# Altium schematic symbol library MCU_ST_STM32H5.SchLib: 73 symbols (part 2 of 3)
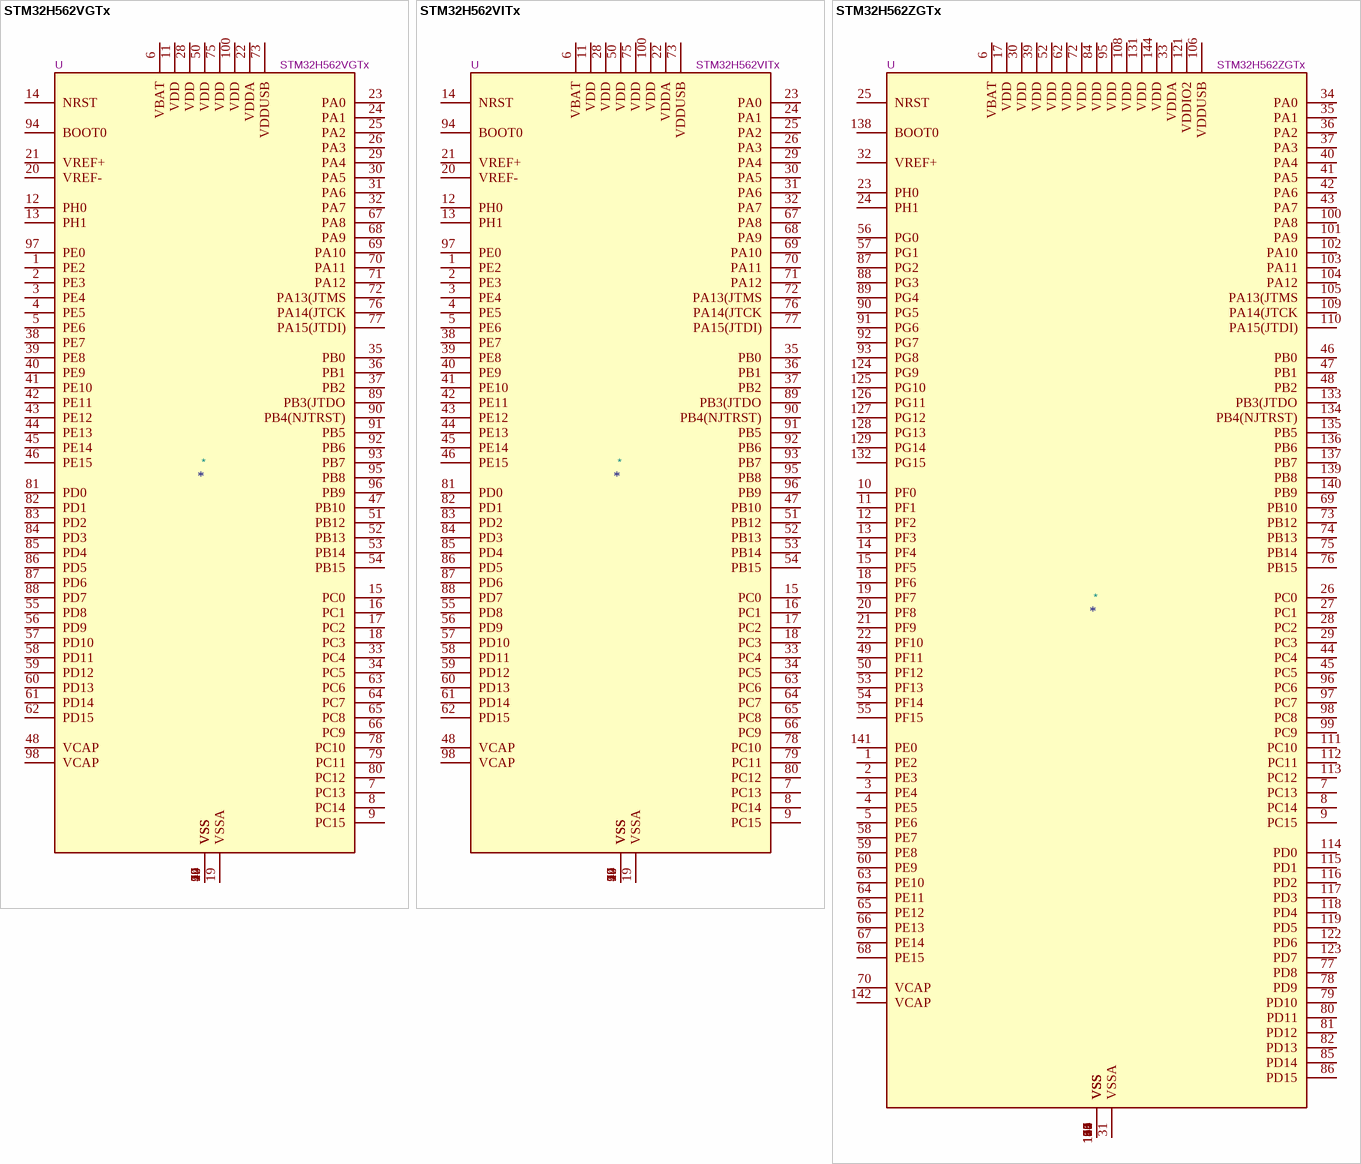
[diagram p22: symbols STM32H562VGTx to STM32H562ZGTx]

## STM32H562VGTx
designator *  value STM32H562VGTx  Reference: U
STMicroelectronics Arm Cortex-M33 MCU, 1024KB flash, 640KB RAM, 80 GPIO, LQFP100; ki_keywords: Arm Cortex-M33 STM32H5 STM32H5x2; ki_fp_filters: LQFP*14x14mm*P0.5mm*; Footprint: Package_QFP:LQFP-100_14x14mm_P0.5mm; Datasheet: https://www.st.com/resource/en/datasheet/stm32h562vg.pdf; Description_: STMicroelectronics Arm Cortex-M33 MCU, 1024KB flash, 640KB RAM, 80 GPIO, LQFP100
pins: 1 PE2, 2 PE3, 3 PE4, 4 PE5, 5 PE6, 6 VBAT, 7 PC13, 8 PC14, 9 PC15, 10 VSS, 11 VDD, 12 PH0, 13 PH1, 14 NRST, 15 PC0, 16 PC1, 17 PC2, 18 PC3, 19 VSSA, 20 VREF-, 21 VREF+, 22 VDDA, 23 PA0, 24 PA1, 25 PA2, 26 PA3, 27 VSS, 28 VDD, 29 PA4, 30 PA5, 31 PA6, 32 PA7, 33 PC4, 34 PC5, 35 PB0, 36 PB1, 37 PB2, 38 PE7, 39 PE8, 40 PE9, 41 PE10, 42 PE11, 43 PE12, 44 PE13, 45 PE14, 46 PE15, 47 PB10, 48 VCAP, 49 VSS, 50 VDD, 51 PB12, 52 PB13, 53 PB14, 54 PB15, 55 PD8, 56 PD9, 57 PD10, 58 PD11, 59 PD12, 60 PD13, 61 PD14, 62 PD15, 63 PC6, 64 PC7, 65 PC8, 66 PC9, 67 PA8, 68 PA9, 69 PA10, 70 PA11, 71 PA12, 72 PA13(JTMS, 73 VDDUSB, 74 VSS, 75 VDD, 76 PA14(JTCK, 77 PA15(JTDI), 78 PC10, 79 PC11, 80 PC12, 81 PD0, 82 PD1, 83 PD2, 84 PD3, 85 PD4, 86 PD5, 87 PD6, 88 PD7, 89 PB3(JTDO, 90 PB4(NJTRST), 91 PB5, 92 PB6, 93 PB7, 94 BOOT0, 95 PB8, 96 PB9, 97 PE0, 98 VCAP, 99 VSS, 100 VDD

## STM32H562VITx
designator *  value STM32H562VITx  Reference: U
STMicroelectronics Arm Cortex-M33 MCU, 2048KB flash, 640KB RAM, 250 MHz, 1.62-3.6V, 80 GPIO, LQFP100; ki_keywords: Arm Cortex-M33 STM32H5 STM32H562; ki_fp_filters: LQFP*14x14mm*P0.5mm*; Footprint: Package_QFP:LQFP-100_14x14mm_P0.5mm; Datasheet: https://www.st.com/resource/en/datasheet/stm32h562vi.pdf; Description_: STMicroelectronics Arm Cortex-M33 MCU, 2048KB flash, 640KB RAM, 250 MHz, 1.62-3.6V, 80 GPIO, LQFP100
pins: 1 PE2, 2 PE3, 3 PE4, 4 PE5, 5 PE6, 6 VBAT, 7 PC13, 8 PC14, 9 PC15, 10 VSS, 11 VDD, 12 PH0, 13 PH1, 14 NRST, 15 PC0, 16 PC1, 17 PC2, 18 PC3, 19 VSSA, 20 VREF-, 21 VREF+, 22 VDDA, 23 PA0, 24 PA1, 25 PA2, 26 PA3, 27 VSS, 28 VDD, 29 PA4, 30 PA5, 31 PA6, 32 PA7, 33 PC4, 34 PC5, 35 PB0, 36 PB1, 37 PB2, 38 PE7, 39 PE8, 40 PE9, 41 PE10, 42 PE11, 43 PE12, 44 PE13, 45 PE14, 46 PE15, 47 PB10, 48 VCAP, 49 VSS, 50 VDD, 51 PB12, 52 PB13, 53 PB14, 54 PB15, 55 PD8, 56 PD9, 57 PD10, 58 PD11, 59 PD12, 60 PD13, 61 PD14, 62 PD15, 63 PC6, 64 PC7, 65 PC8, 66 PC9, 67 PA8, 68 PA9, 69 PA10, 70 PA11, 71 PA12, 72 PA13(JTMS, 73 VDDUSB, 74 VSS, 75 VDD, 76 PA14(JTCK, 77 PA15(JTDI), 78 PC10, 79 PC11, 80 PC12, 81 PD0, 82 PD1, 83 PD2, 84 PD3, 85 PD4, 86 PD5, 87 PD6, 88 PD7, 89 PB3(JTDO, 90 PB4(NJTRST), 91 PB5, 92 PB6, 93 PB7, 94 BOOT0, 95 PB8, 96 PB9, 97 PE0, 98 VCAP, 99 VSS, 100 VDD

## STM32H562ZGTx
designator *  value STM32H562ZGTx  Reference: U
STMicroelectronics Arm Cortex-M33 MCU, 1024KB flash, 640KB RAM, 112 GPIO, LQFP144; ki_keywords: Arm Cortex-M33 STM32H5 STM32H5x2; ki_fp_filters: LQFP*20x20mm*P0.5mm*; Footprint: Package_QFP:LQFP-144_20x20mm_P0.5mm; Datasheet: https://www.st.com/resource/en/datasheet/stm32h562zg.pdf; Description_: STMicroelectronics Arm Cortex-M33 MCU, 1024KB flash, 640KB RAM, 112 GPIO, LQFP144
pins: 1 PE2, 2 PE3, 3 PE4, 4 PE5, 5 PE6, 6 VBAT, 7 PC13, 8 PC14, 9 PC15, 10 PF0, 11 PF1, 12 PF2, 13 PF3, 14 PF4, 15 PF5, 16 VSS, 17 VDD, 18 PF6, 19 PF7, 20 PF8, 21 PF9, 22 PF10, 23 PH0, 24 PH1, 25 NRST, 26 PC0, 27 PC1, 28 PC2, 29 PC3, 30 VDD, 31 VSSA, 32 VREF+, 33 VDDA, 34 PA0, 35 PA1, 36 PA2, 37 PA3, 38 VSS, 39 VDD, 40 PA4, 41 PA5, 42 PA6, 43 PA7, 44 PC4, 45 PC5, 46 PB0, 47 PB1, 48 PB2, 49 PF11, 50 PF12, 51 VSS, 52 VDD, 53 PF13, 54 PF14, 55 PF15, 56 PG0, 57 PG1, 58 PE7, 59 PE8, 60 PE9, 61 VSS, 62 VDD, 63 PE10, 64 PE11, 65 PE12, 66 PE13, 67 PE14, 68 PE15, 69 PB10, 70 VCAP, 71 VSS, 72 VDD, 73 PB12, 74 PB13, 75 PB14, 76 PB15, 77 PD8, 78 PD9, 79 PD10, 80 PD11, 81 PD12, 82 PD13, 83 VSS, 84 VDD, 85 PD14, 86 PD15, 87 PG2, 88 PG3, 89 PG4, 90 PG5, 91 PG6, 92 PG7, 93 PG8, 94 VSS, 95 VDD, 96 PC6, 97 PC7, 98 PC8, 99 PC9, 100 PA8, 101 PA9, 102 PA10, 103 PA11, 104 PA12, 105 PA13(JTMS, 106 VDDUSB, 107 VSS, 108 VDD, 109 PA14(JTCK, 110 PA15(JTDI), 111 PC10, 112 PC11, 113 PC12, 114 PD0, 115 PD1, 116 PD2, 117 PD3, 118 PD4, 119 PD5, 120 VSS, 121 VDDIO2, 122 PD6, 123 PD7, 124 PG9, 125 PG10, 126 PG11, 127 PG12, 128 PG13, 129 PG14, 130 VSS, 131 VDD, 132 PG15, 133 PB3(JTDO, 134 PB4(NJTRST), 135 PB5, 136 PB6, 137 PB7, 138 BOOT0, 139 PB8, 140 PB9, 141 PE0, 142 VCAP, 143 VSS, 144 VDD

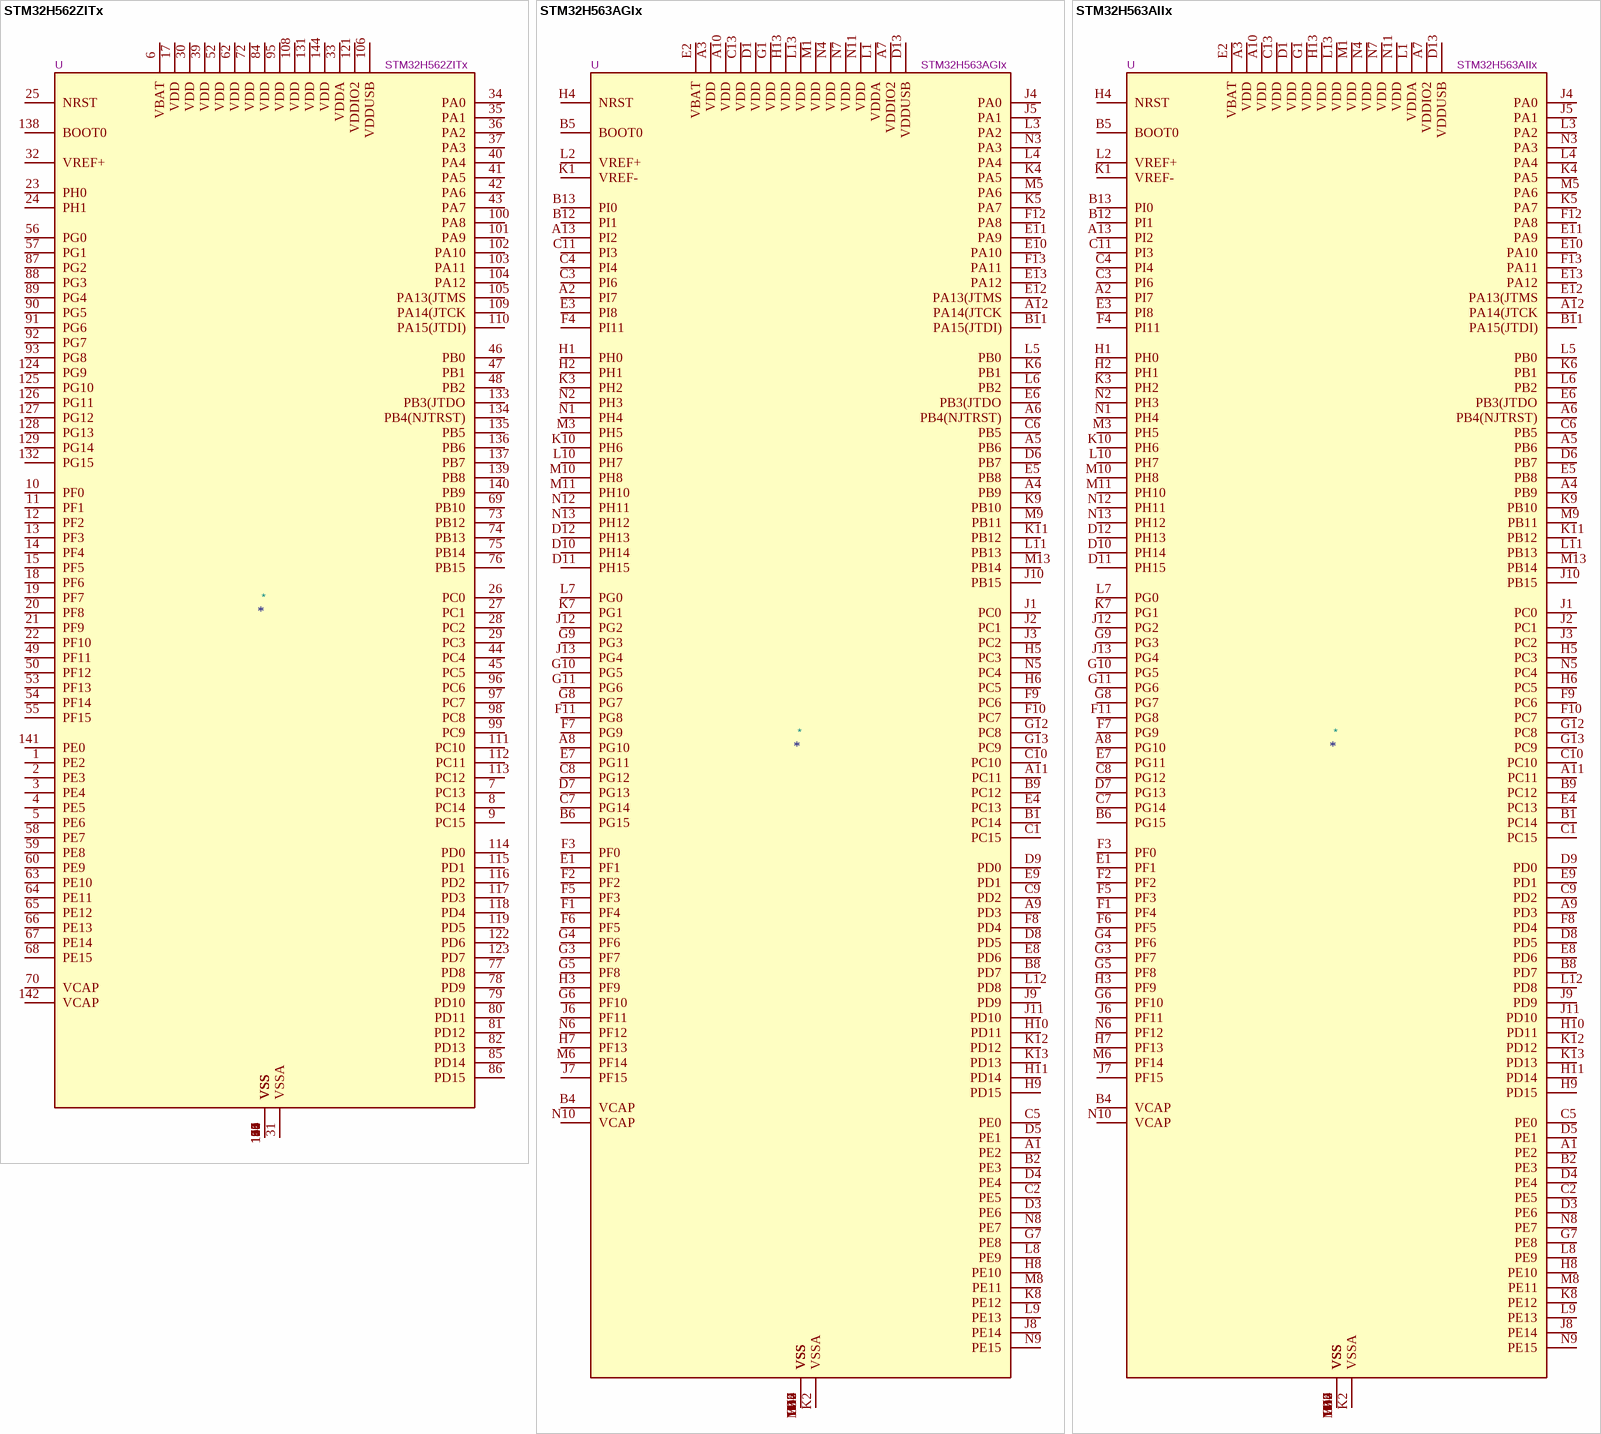
[diagram p10: symbols STM32H562ZITx to STM32H563AIIx]

## STM32H562ZITx
designator *  value STM32H562ZITx  Reference: U
STMicroelectronics Arm Cortex-M33 MCU, 2048KB flash, 640KB RAM, 250 MHz, 1.62-3.6V, 112 GPIO, LQFP144; ki_keywords: Arm Cortex-M33 STM32H5 STM32H562; ki_fp_filters: LQFP*20x20mm*P0.5mm*; Footprint: Package_QFP:LQFP-144_20x20mm_P0.5mm; Datasheet: https://www.st.com/resource/en/datasheet/stm32h562zi.pdf; Description_: STMicroelectronics Arm Cortex-M33 MCU, 2048KB flash, 640KB RAM, 250 MHz, 1.62-3.6V, 112 GPIO, LQFP144
pins: 1 PE2, 2 PE3, 3 PE4, 4 PE5, 5 PE6, 6 VBAT, 7 PC13, 8 PC14, 9 PC15, 10 PF0, 11 PF1, 12 PF2, 13 PF3, 14 PF4, 15 PF5, 16 VSS, 17 VDD, 18 PF6, 19 PF7, 20 PF8, 21 PF9, 22 PF10, 23 PH0, 24 PH1, 25 NRST, 26 PC0, 27 PC1, 28 PC2, 29 PC3, 30 VDD, 31 VSSA, 32 VREF+, 33 VDDA, 34 PA0, 35 PA1, 36 PA2, 37 PA3, 38 VSS, 39 VDD, 40 PA4, 41 PA5, 42 PA6, 43 PA7, 44 PC4, 45 PC5, 46 PB0, 47 PB1, 48 PB2, 49 PF11, 50 PF12, 51 VSS, 52 VDD, 53 PF13, 54 PF14, 55 PF15, 56 PG0, 57 PG1, 58 PE7, 59 PE8, 60 PE9, 61 VSS, 62 VDD, 63 PE10, 64 PE11, 65 PE12, 66 PE13, 67 PE14, 68 PE15, 69 PB10, 70 VCAP, 71 VSS, 72 VDD, 73 PB12, 74 PB13, 75 PB14, 76 PB15, 77 PD8, 78 PD9, 79 PD10, 80 PD11, 81 PD12, 82 PD13, 83 VSS, 84 VDD, 85 PD14, 86 PD15, 87 PG2, 88 PG3, 89 PG4, 90 PG5, 91 PG6, 92 PG7, 93 PG8, 94 VSS, 95 VDD, 96 PC6, 97 PC7, 98 PC8, 99 PC9, 100 PA8, 101 PA9, 102 PA10, 103 PA11, 104 PA12, 105 PA13(JTMS, 106 VDDUSB, 107 VSS, 108 VDD, 109 PA14(JTCK, 110 PA15(JTDI), 111 PC10, 112 PC11, 113 PC12, 114 PD0, 115 PD1, 116 PD2, 117 PD3, 118 PD4, 119 PD5, 120 VSS, 121 VDDIO2, 122 PD6, 123 PD7, 124 PG9, 125 PG10, 126 PG11, 127 PG12, 128 PG13, 129 PG14, 130 VSS, 131 VDD, 132 PG15, 133 PB3(JTDO, 134 PB4(NJTRST), 135 PB5, 136 PB6, 137 PB7, 138 BOOT0, 139 PB8, 140 PB9, 141 PE0, 142 VCAP, 143 VSS, 144 VDD

## STM32H563AGIx
designator *  value STM32H563AGIx  Reference: U
STMicroelectronics Arm Cortex-M33 MCU, 1024KB flash, 640KB RAM, 136 GPIO, UFBGA169; ki_keywords: Arm Cortex-M33 STM32H5 STM32H5x3; ki_fp_filters: UFBGA*7x7mm*Layout13x13*P0.5mm*; Footprint: Package_BGA:UFBGA-169_7x7mm_Layout13x13_P0.5mm; Datasheet: https://www.st.com/resource/en/datasheet/stm32h563ag.pdf; Description_: STMicroelectronics Arm Cortex-M33 MCU, 1024KB flash, 640KB RAM, 136 GPIO, UFBGA169
pins: A1 PE2, A2 PI7, A3 VDD, A4 PB9, A5 PB6, A6 PB4(NJTRST), A7 VDDIO2, A8 PG10, A9 PD3, A10 VDD, A11 PC11, A12 PA14(JTCK, A13 PI2, B1 PC14, B2 PE3, B3 VSS, B4 VCAP, B5 BOOT0, B6 PG15, B7 VSS, B8 PD7, B9 PC12, B10 VSS, B11 PA15(JTDI), B12 PI1, B13 PI0, C1 PC15, C2 PE5, C3 PI6, C4 PI4, C5 PE0, C6 PB5, C7 PG14, C8 PG12, C9 PD2, C10 PC10, C11 PI3, C12 VSS, C13 VDD, D1 VDD, D2 VSS, D3 PE6, D4 PE4, D5 PE1, D6 PB7, D7 PG13, D8 PD5, D9 PD0, D10 PH14, D11 PH15, D12 PH13, D13 VDDUSB, E1 PF1, E2 VBAT, E3 PI8, E4 PC13, E5 PB8, E6 PB3(JTDO, E7 PG11, E8 PD6, E9 PD1, E10 PA10, E11 PA9, E12 PA13(JTMS, E13 PA12, F1 PF4, F2 PF2, F3 PF0, F4 PI11, F5 PF3, F6 PF5, F7 PG9, F8 PD4, F9 PC6, F10 PC7, F11 PG8, F12 PA8, F13 PA11, G1 VDD, G2 VSS, G3 PF7, G4 PF6, G5 PF8, G6 PF10, G7 PE8, G8 PG7, G9 PG3, G10 PG5, G11 PG6, G12 PC8, G13 PC9, H1 PH0, H2 PH1, H3 PF9, H4 NRST, H5 PC3, H6 PC5, H7 PF13, H8 PE10, H9 PD15, H10 PD11, H11 PD14, H12 VSS, H13 VDD, J1 PC0, J2 PC1, J3 PC2, J4 PA0, J5 PA1, J6 PF11, J7 PF15, J8 PE14, J9 PD9, J10 PB15, J11 PD10, J12 PG2, J13 PG4, K1 VREF-, K2 VSSA, K3 PH2, K4 PA5, K5 PA7, K6 PB1, K7 PG1, K8 PE12, K9 PB10, K10 PH6, K11 PB12, K12 PD12, K13 PD13, L1 VDDA, L2 VREF+, L3 PA2, L4 PA4, L5 PB0, L6 PB2, L7 PG0, L8 PE9, L9 PE13, L10 PH7, L11 PB13, L12 PD8, L13 VDD, M1 VDD, M2 VSS, M3 PH5, M4 VSS, M5 PA6, M6 PF14, M7 VSS, M8 PE11, M9 PB11, M10 PH8, M11 PH10, M12 VSS, M13 PB14, N1 PH4, N2 PH3, N3 PA3, N4 VDD, N5 PC4, N6 PF12, N7 VDD, N8 PE7, N9 PE15, N10 VCAP, N11 VDD, N12 PH11, N13 PH12

## STM32H563AIIx
designator *  value STM32H563AIIx  Reference: U
STMicroelectronics Arm Cortex-M33 MCU, 2048KB flash, 640KB RAM, 250 MHz, 1.62-3.6V, 136 GPIO, UFBGA169; ki_keywords: Arm Cortex-M33 STM32H5 STM32H563/H573; ki_fp_filters: UFBGA*7x7mm*Layout13x13*P0.5mm*; Footprint: Package_BGA:UFBGA-169_7x7mm_Layout13x13_P0.5mm; Datasheet: https://www.st.com/resource/en/datasheet/stm32h563ai.pdf; Description_: STMicroelectronics Arm Cortex-M33 MCU, 2048KB flash, 640KB RAM, 250 MHz, 1.62-3.6V, 136 GPIO, UFBGA169
pins: A1 PE2, A2 PI7, A3 VDD, A4 PB9, A5 PB6, A6 PB4(NJTRST), A7 VDDIO2, A8 PG10, A9 PD3, A10 VDD, A11 PC11, A12 PA14(JTCK, A13 PI2, B1 PC14, B2 PE3, B3 VSS, B4 VCAP, B5 BOOT0, B6 PG15, B7 VSS, B8 PD7, B9 PC12, B10 VSS, B11 PA15(JTDI), B12 PI1, B13 PI0, C1 PC15, C2 PE5, C3 PI6, C4 PI4, C5 PE0, C6 PB5, C7 PG14, C8 PG12, C9 PD2, C10 PC10, C11 PI3, C12 VSS, C13 VDD, D1 VDD, D2 VSS, D3 PE6, D4 PE4, D5 PE1, D6 PB7, D7 PG13, D8 PD5, D9 PD0, D10 PH14, D11 PH15, D12 PH13, D13 VDDUSB, E1 PF1, E2 VBAT, E3 PI8, E4 PC13, E5 PB8, E6 PB3(JTDO, E7 PG11, E8 PD6, E9 PD1, E10 PA10, E11 PA9, E12 PA13(JTMS, E13 PA12, F1 PF4, F2 PF2, F3 PF0, F4 PI11, F5 PF3, F6 PF5, F7 PG9, F8 PD4, F9 PC6, F10 PC7, F11 PG8, F12 PA8, F13 PA11, G1 VDD, G2 VSS, G3 PF7, G4 PF6, G5 PF8, G6 PF10, G7 PE8, G8 PG7, G9 PG3, G10 PG5, G11 PG6, G12 PC8, G13 PC9, H1 PH0, H2 PH1, H3 PF9, H4 NRST, H5 PC3, H6 PC5, H7 PF13, H8 PE10, H9 PD15, H10 PD11, H11 PD14, H12 VSS, H13 VDD, J1 PC0, J2 PC1, J3 PC2, J4 PA0, J5 PA1, J6 PF11, J7 PF15, J8 PE14, J9 PD9, J10 PB15, J11 PD10, J12 PG2, J13 PG4, K1 VREF-, K2 VSSA, K3 PH2, K4 PA5, K5 PA7, K6 PB1, K7 PG1, K8 PE12, K9 PB10, K10 PH6, K11 PB12, K12 PD12, K13 PD13, L1 VDDA, L2 VREF+, L3 PA2, L4 PA4, L5 PB0, L6 PB2, L7 PG0, L8 PE9, L9 PE13, L10 PH7, L11 PB13, L12 PD8, L13 VDD, M1 VDD, M2 VSS, M3 PH5, M4 VSS, M5 PA6, M6 PF14, M7 VSS, M8 PE11, M9 PB11, M10 PH8, M11 PH10, M12 VSS, M13 PB14, N1 PH4, N2 PH3, N3 PA3, N4 VDD, N5 PC4, N6 PF12, N7 VDD, N8 PE7, N9 PE15, N10 VCAP, N11 VDD, N12 PH11, N13 PH12

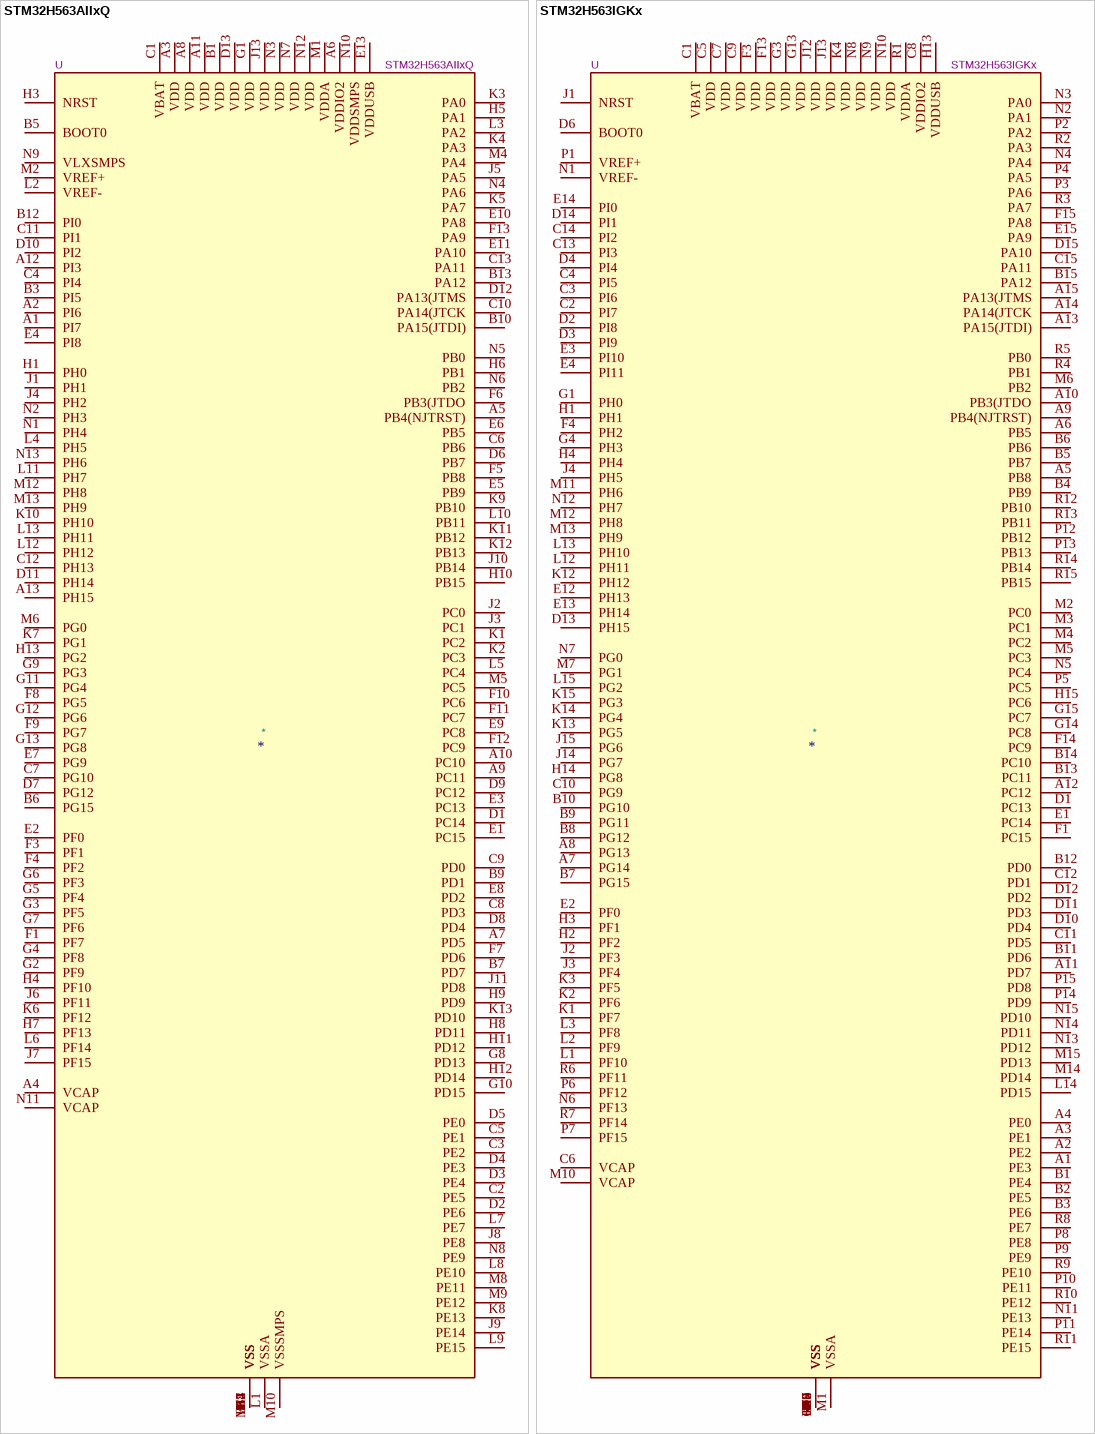
[diagram p11: symbols STM32H563AIIxQ to STM32H563IGKx]

## STM32H563AIIxQ
designator *  value STM32H563AIIxQ  Reference: U
STMicroelectronics Arm Cortex-M33 MCU, 2048KB flash, 640KB RAM, 250 MHz, 1.62-3.6V, 134 GPIO, UFBGA169; ki_keywords: Arm Cortex-M33 STM32H5 STM32H563/H573; ki_fp_filters: UFBGA*7x7mm*Layout13x13*P0.5mm*; Footprint: Package_BGA:UFBGA-169_7x7mm_Layout13x13_P0.5mm; Datasheet: https://www.st.com/resource/en/datasheet/stm32h563ai.pdf; Description_: STMicroelectronics Arm Cortex-M33 MCU, 2048KB flash, 640KB RAM, 250 MHz, 1.62-3.6V, 134 GPIO, UFBGA169
pins: A1 PI7, A2 PI6, A3 VDD, A4 VCAP, A5 PB4(NJTRST), A6 VDDIO2, A7 PD5, A8 VDD, A9 PC11, A10 PC10, A11 VDD, A12 PI3, A13 PH15, B1 VDD, B2 VSS, B3 PI5, B4 VSS, B5 BOOT0, B6 PG15, B7 PD7, B8 VSS, B9 PD1, B10 PA15(JTDI), B11 VSS, B12 PI0, B13 PA12, C1 VBAT, C2 PE5, C3 PE2, C4 PI4, C5 PE1, C6 PB6, C7 PG10, C8 PD3, C9 PD0, C10 PA14(JTCK, C11 PI1, C12 PH13, C13 PA11, D1 PC14, D2 PE6, D3 PE4, D4 PE3, D5 PE0, D6 PB7, D7 PG12, D8 PD4, D9 PC12, D10 PI2, D11 PH14, D12 PA13(JTMS, D13 VDD, E1 PC15, E2 PF0, E3 PC13, E4 PI8, E5 PB9, E6 PB5, E7 PG9, E8 PD2, E9 PC8, E10 PA8, E11 PA10, E12 VSS, E13 VDDUSB, F1 PF7, F2 VSS, F3 PF1, F4 PF2, F5 PB8, F6 PB3(JTDO, F7 PD6, F8 PG5, F9 PG7, F10 PC6, F11 PC7, F12 PC9, F13 PA9, G1 VDD, G2 PF9, G3 PF5, G4 PF8, G5 PF4, G6 PF3, G7 PF6, G8 PD13, G9 PG3, G10 PD15, G11 PG4, G12 PG6, G13 PG8, H1 PH0, H2 VSS, H3 NRST, H4 PF10, H5 PA1, H6 PB1, H7 PF13, H8 PD11, H9 PD9, H10 PB15, H11 PD12, H12 PD14, H13 PG2, J1 PH1, J2 PC0, J3 PC1, J4 PH2, J5 PA5, J6 PF11, J7 PF15, J8 PE8, J9 PE14, J10 PB14, J11 PD8, J12 VSS, J13 VDD, K1 PC2, K2 PC3, K3 PA0, K4 PA3, K5 PA7, K6 PF12, K7 PG1, K8 PE13, K9 PB10, K10 PH10, K11 PB12, K12 PB13, K13 PD10, L1 VSSA, L2 VREF-, L3 PA2, L4 PH5, L5 PC4, L6 PF14, L7 PE7, L8 PE10, L9 PE15, L10 PB11, L11 PH7, L12 PH12, L13 PH11, M1 VDDA, M2 VREF+, M3 VSS, M4 PA4, M5 PC5, M6 PG0, M7 VSS, M8 PE11, M9 PE12, M10 VSSSMPS, M11 VSS, M12 PH8, M13 PH9, N1 PH4, N2 PH3, N3 VDD, N4 PA6, N5 PB0, N6 PB2, N7 VDD, N8 PE9, N9 VLXSMPS, N10 VDDSMPS, N11 VCAP, N12 VDD, N13 PH6

## STM32H563IGKx
designator *  value STM32H563IGKx  Reference: U
STMicroelectronics Arm Cortex-M33 MCU, 1024KB flash, 640KB RAM, 250 MHz, 1.62-3.6V, 140 GPIO, UFBGA176; ki_keywords: Arm Cortex-M33 STM32H5 STM32H563/H573; ki_fp_filters: UFBGA*10x10mm*Layout15x15*P0.65mm*; Footprint: Package_BGA:UFBGA-201_10x10mm_Layout15x15_P0.65mm; Datasheet: https://www.st.com/resource/en/datasheet/stm32h563ig.pdf; Description_: STMicroelectronics Arm Cortex-M33 MCU, 1024KB flash, 640KB RAM, 250 MHz, 1.62-3.6V, 140 GPIO, UFBGA176
pins: A1 PE3, A2 PE2, A3 PE1, A4 PE0, A5 PB8, A6 PB5, A7 PG14, A8 PG13, A9 PB4(NJTRST), A10 PB3(JTDO, A11 PD7, A12 PC12, A13 PA15(JTDI), A14 PA14(JTCK, A15 PA13(JTMS, B1 PE4, B2 PE5, B3 PE6, B4 PB9, B5 PB7, B6 PB6, B7 PG15, B8 PG12, B9 PG11, B10 PG10, B11 PD6, B12 PD0, B13 PC11, B14 PC10, B15 PA12, C1 VBAT, C2 PI7, C3 PI6, C4 PI5, C5 VDD, C6 VCAP, C7 VDD, C8 VDDIO2, C9 VDD, C10 PG9, C11 PD5, C12 PD1, C13 PI3, C14 PI2, C15 PA11, D1 PC13, D2 PI8, D3 PI9, D4 PI4, D5 VSS, D6 BOOT0, D7 VSS, D8 VSS, D9 VSS, D10 PD4, D11 PD3, D12 PD2, D13 PH15, D14 PI1, D15 PA10, E1 PC14, E2 PF0, E3 PI10, E4 PI11, E12 PH13, E13 PH14, E14 PI0, E15 PA9, F1 PC15, F2 VSS, F3 VDD, F4 PH2, F6 VSS, F7 VSS, F8 VSS, F9 VSS, F10 VSS, F12 VSS, F13 VDD, F14 PC9, F15 PA8, G1 PH0, G2 VSS, G3 VDD, G4 PH3, G6 VSS, G7 VSS, G8 VSS, G9 VSS, G10 VSS, G12 VSS, G13 VDD, G14 PC8, G15 PC7, H1 PH1, H2 PF2, H3 PF1, H4 PH4, H6 VSS, H7 VSS, H8 VSS, H9 VSS, H10 VSS, H12 VSS, H13 VDDUSB, H14 PG8, H15 PC6, J1 NRST, J2 PF3, J3 PF4, J4 PH5, J6 VSS, J7 VSS, J8 VSS, J9 VSS, J10 VSS, J12 VDD, J13 VDD, J14 PG7, J15 PG6, K1 PF7, K2 PF6, K3 PF5, K4 VDD, K6 VSS, K7 VSS, K8 VSS, K9 VSS, K10 VSS, K12 PH12, K13 PG5, K14 PG4, K15 PG3, L1 PF10, L2 PF9, L3 PF8, L4 VSS, L12 PH11, L13 PH10, L14 PD15, L15 PG2, M1 VSSA, M2 PC0, M3 PC1, M4 PC2, M5 PC3, M6 PB2, M7 PG1, M8 VSS, M9 VSS, M10 VCAP, M11 PH6, M12 PH8, M13 PH9, M14 PD14, M15 PD13, N1 VREF-, N2 PA1, N3 PA0, N4 PA4, N5 PC4, N6 PF13, N7 PG0, N8 VDD, N9 VDD, N10 VDD, N11 PE13, N12 PH7, N13 PD12, N14 PD11, N15 PD10, P1 VREF+, P2 PA2, P3 PA6, P4 PA5, P5 PC5, P6 PF12, P7 PF15, P8 PE8, P9 PE9, P10 PE11, P11 PE14, P12 PB12, P13 PB13, P14 PD9, P15 PD8, R1 VDDA, R2 PA3, R3 PA7, R4 PB1, R5 PB0, R6 PF11, R7 PF14, R8 PE7, R9 PE10, R10 PE12, R11 PE15, R12 PB10, R13 PB11, R14 PB14, R15 PB15

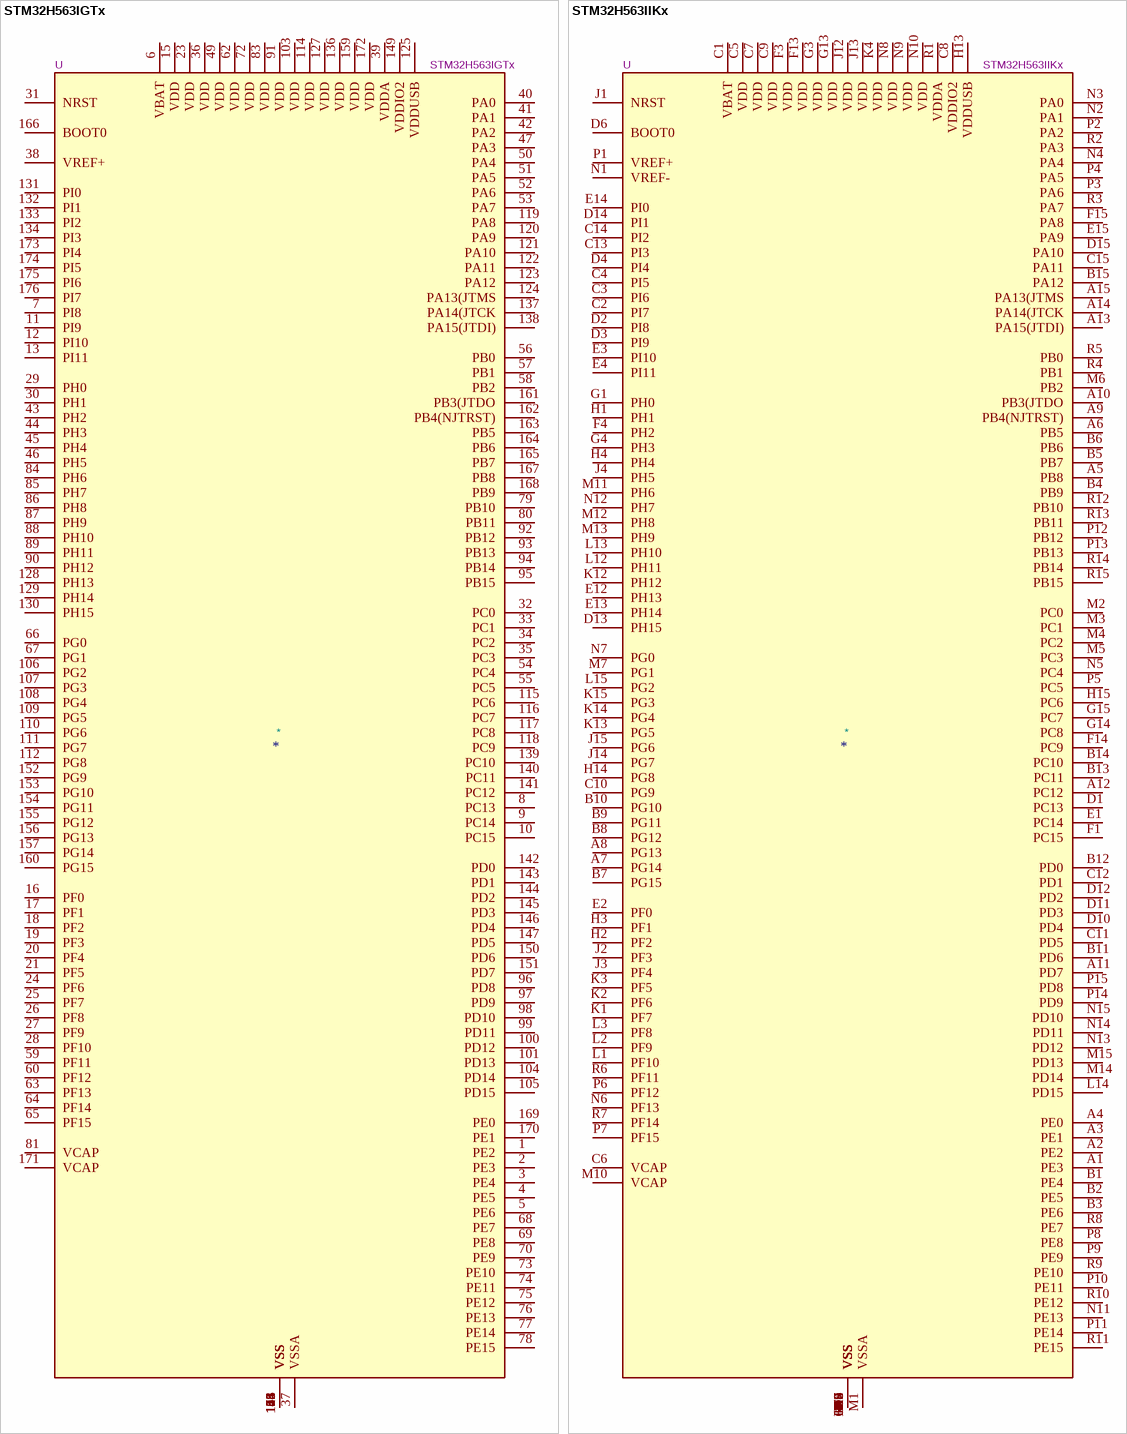
[diagram p12: symbols STM32H563IGTx to STM32H563IIKx]

## STM32H563IGTx
designator *  value STM32H563IGTx  Reference: U
STMicroelectronics Arm Cortex-M33 MCU, 1024KB flash, 640KB RAM, 140 GPIO, LQFP176; ki_keywords: Arm Cortex-M33 STM32H5 STM32H5x3; ki_fp_filters: LQFP*24x24mm*P0.5mm*; Footprint: Package_QFP:LQFP-176_24x24mm_P0.5mm; Datasheet: https://www.st.com/resource/en/datasheet/stm32h563ig.pdf; Description_: STMicroelectronics Arm Cortex-M33 MCU, 1024KB flash, 640KB RAM, 140 GPIO, LQFP176
pins: 1 PE2, 2 PE3, 3 PE4, 4 PE5, 5 PE6, 6 VBAT, 7 PI8, 8 PC13, 9 PC14, 10 PC15, 11 PI9, 12 PI10, 13 PI11, 14 VSS, 15 VDD, 16 PF0, 17 PF1, 18 PF2, 19 PF3, 20 PF4, 21 PF5, 22 VSS, 23 VDD, 24 PF6, 25 PF7, 26 PF8, 27 PF9, 28 PF10, 29 PH0, 30 PH1, 31 NRST, 32 PC0, 33 PC1, 34 PC2, 35 PC3, 36 VDD, 37 VSSA, 38 VREF+, 39 VDDA, 40 PA0, 41 PA1, 42 PA2, 43 PH2, 44 PH3, 45 PH4, 46 PH5, 47 PA3, 48 VSS, 49 VDD, 50 PA4, 51 PA5, 52 PA6, 53 PA7, 54 PC4, 55 PC5, 56 PB0, 57 PB1, 58 PB2, 59 PF11, 60 PF12, 61 VSS, 62 VDD, 63 PF13, 64 PF14, 65 PF15, 66 PG0, 67 PG1, 68 PE7, 69 PE8, 70 PE9, 71 VSS, 72 VDD, 73 PE10, 74 PE11, 75 PE12, 76 PE13, 77 PE14, 78 PE15, 79 PB10, 80 PB11, 81 VCAP, 82 VSS, 83 VDD, 84 PH6, 85 PH7, 86 PH8, 87 PH9, 88 PH10, 89 PH11, 90 PH12, 91 VDD, 92 PB12, 93 PB13, 94 PB14, 95 PB15, 96 PD8, 97 PD9, 98 PD10, 99 PD11, 100 PD12, 101 PD13, 102 VSS, 103 VDD, 104 PD14, 105 PD15, 106 PG2, 107 PG3, 108 PG4, 109 PG5, 110 PG6, 111 PG7, 112 PG8, 113 VSS, 114 VDD, 115 PC6, 116 PC7, 117 PC8, 118 PC9, 119 PA8, 120 PA9, 121 PA10, 122 PA11, 123 PA12, 124 PA13(JTMS, 125 VDDUSB, 126 VSS, 127 VDD, 128 PH13, 129 PH14, 130 PH15, 131 PI0, 132 PI1, 133 PI2, 134 PI3, 135 VSS, 136 VDD, 137 PA14(JTCK, 138 PA15(JTDI), 139 PC10, 140 PC11, 141 PC12, 142 PD0, 143 PD1, 144 PD2, 145 PD3, 146 PD4, 147 PD5, 148 VSS, 149 VDDIO2, 150 PD6, 151 PD7, 152 PG9, 153 PG10, 154 PG11, 155 PG12, 156 PG13, 157 PG14, 158 VSS, 159 VDD, 160 PG15, 161 PB3(JTDO, 162 PB4(NJTRST), 163 PB5, 164 PB6, 165 PB7, 166 BOOT0, 167 PB8, 168 PB9, 169 PE0, 170 PE1, 171 VCAP, 172 VDD, 173 PI4, 174 PI5, 175 PI6, 176 PI7

## STM32H563IIKx
designator *  value STM32H563IIKx  Reference: U
STMicroelectronics Arm Cortex-M33 MCU, 2048KB flash, 640KB RAM, 250 MHz, 1.62-3.6V, 140 GPIO, UFBGA176; ki_keywords: Arm Cortex-M33 STM32H5 STM32H563/H573; ki_fp_filters: UFBGA*10x10mm*Layout15x15*P0.65mm*; Footprint: Package_BGA:UFBGA-201_10x10mm_Layout15x15_P0.65mm; Datasheet: https://www.st.com/resource/en/datasheet/stm32h563ii.pdf; Description_: STMicroelectronics Arm Cortex-M33 MCU, 2048KB flash, 640KB RAM, 250 MHz, 1.62-3.6V, 140 GPIO, UFBGA176
pins: A1 PE3, A2 PE2, A3 PE1, A4 PE0, A5 PB8, A6 PB5, A7 PG14, A8 PG13, A9 PB4(NJTRST), A10 PB3(JTDO, A11 PD7, A12 PC12, A13 PA15(JTDI), A14 PA14(JTCK, A15 PA13(JTMS, B1 PE4, B2 PE5, B3 PE6, B4 PB9, B5 PB7, B6 PB6, B7 PG15, B8 PG12, B9 PG11, B10 PG10, B11 PD6, B12 PD0, B13 PC11, B14 PC10, B15 PA12, C1 VBAT, C2 PI7, C3 PI6, C4 PI5, C5 VDD, C6 VCAP, C7 VDD, C8 VDDIO2, C9 VDD, C10 PG9, C11 PD5, C12 PD1, C13 PI3, C14 PI2, C15 PA11, D1 PC13, D2 PI8, D3 PI9, D4 PI4, D5 VSS, D6 BOOT0, D7 VSS, D8 VSS, D9 VSS, D10 PD4, D11 PD3, D12 PD2, D13 PH15, D14 PI1, D15 PA10, E1 PC14, E2 PF0, E3 PI10, E4 PI11, E12 PH13, E13 PH14, E14 PI0, E15 PA9, F1 PC15, F2 VSS, F3 VDD, F4 PH2, F6 VSS, F7 VSS, F8 VSS, F9 VSS, F10 VSS, F12 VSS, F13 VDD, F14 PC9, F15 PA8, G1 PH0, G2 VSS, G3 VDD, G4 PH3, G6 VSS, G7 VSS, G8 VSS, G9 VSS, G10 VSS, G12 VSS, G13 VDD, G14 PC8, G15 PC7, H1 PH1, H2 PF2, H3 PF1, H4 PH4, H6 VSS, H7 VSS, H8 VSS, H9 VSS, H10 VSS, H12 VSS, H13 VDDUSB, H14 PG8, H15 PC6, J1 NRST, J2 PF3, J3 PF4, J4 PH5, J6 VSS, J7 VSS, J8 VSS, J9 VSS, J10 VSS, J12 VDD, J13 VDD, J14 PG7, J15 PG6, K1 PF7, K2 PF6, K3 PF5, K4 VDD, K6 VSS, K7 VSS, K8 VSS, K9 VSS, K10 VSS, K12 PH12, K13 PG5, K14 PG4, K15 PG3, L1 PF10, L2 PF9, L3 PF8, L4 VSS, L12 PH11, L13 PH10, L14 PD15, L15 PG2, M1 VSSA, M2 PC0, M3 PC1, M4 PC2, M5 PC3, M6 PB2, M7 PG1, M8 VSS, M9 VSS, M10 VCAP, M11 PH6, M12 PH8, M13 PH9, M14 PD14, M15 PD13, N1 VREF-, N2 PA1, N3 PA0, N4 PA4, N5 PC4, N6 PF13, N7 PG0, N8 VDD, N9 VDD, N10 VDD, N11 PE13, N12 PH7, N13 PD12, N14 PD11, N15 PD10, P1 VREF+, P2 PA2, P3 PA6, P4 PA5, P5 PC5, P6 PF12, P7 PF15, P8 PE8, P9 PE9, P10 PE11, P11 PE14, P12 PB12, P13 PB13, P14 PD9, P15 PD8, R1 VDDA, R2 PA3, R3 PA7, R4 PB1, R5 PB0, R6 PF11, R7 PF14, R8 PE7, R9 PE10, R10 PE12, R11 PE15, R12 PB10, R13 PB11, R14 PB14, R15 PB15

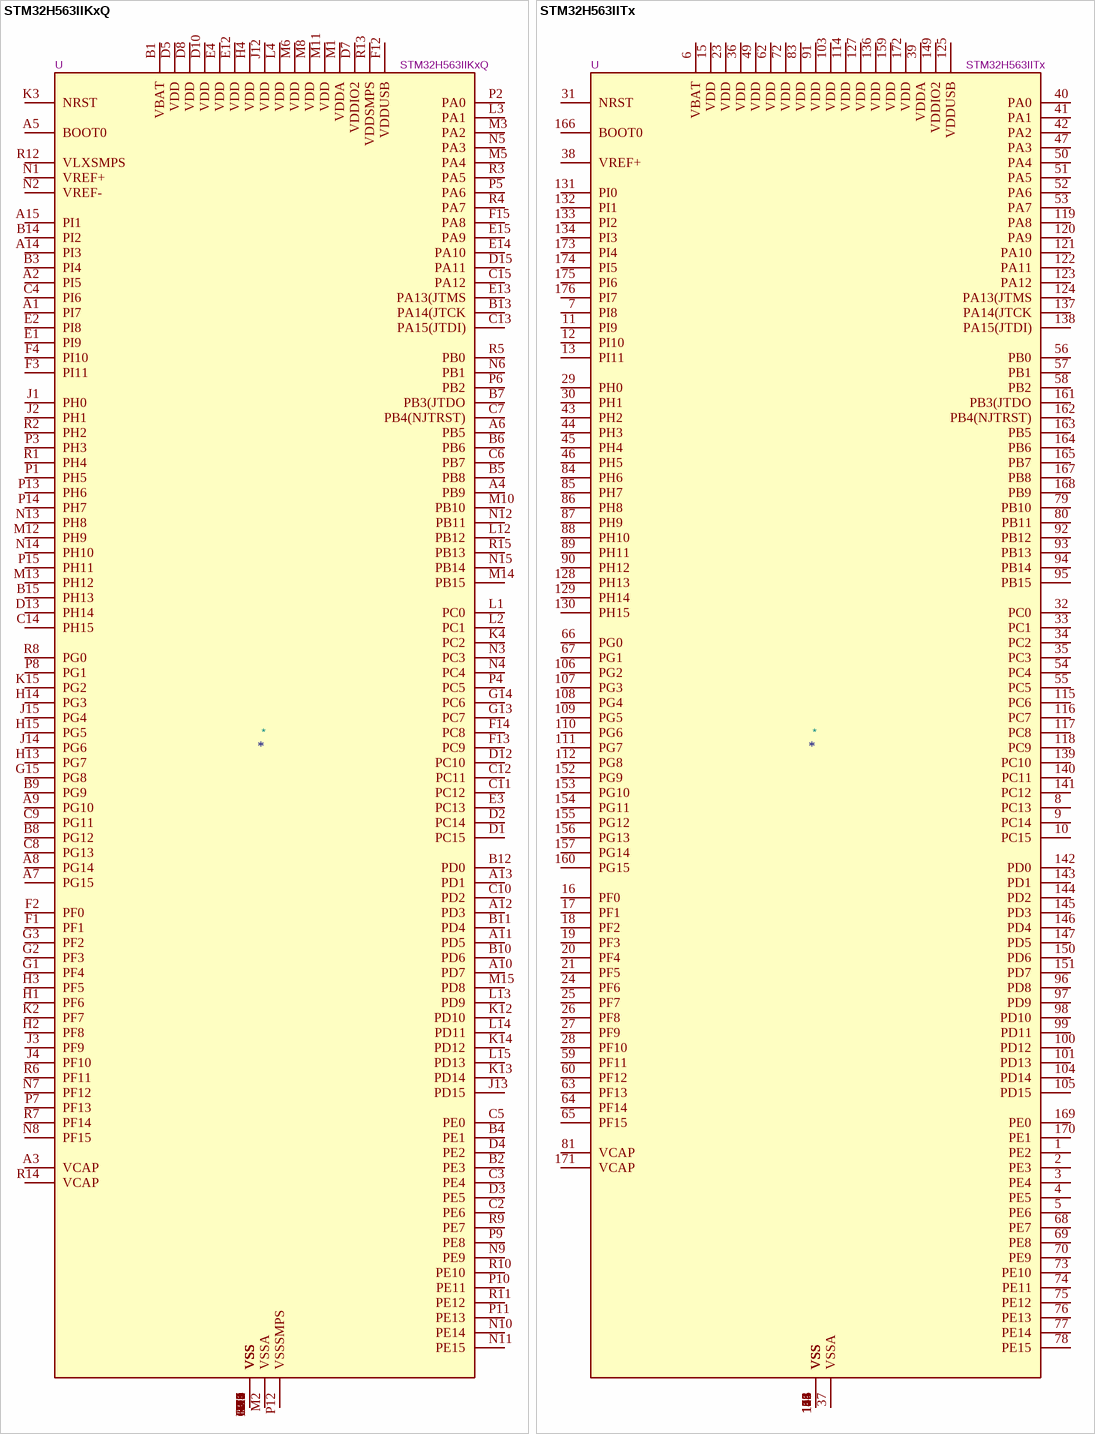
[diagram p13: symbols STM32H563IIKxQ to STM32H563IITx]

## STM32H563IIKxQ
designator *  value STM32H563IIKxQ  Reference: U
STMicroelectronics Arm Cortex-M33 MCU, 2048KB flash, 640KB RAM, 250 MHz, 1.62-3.6V, 139 GPIO, UFBGA176; ki_keywords: Arm Cortex-M33 STM32H5 STM32H563/H573; ki_fp_filters: UFBGA*10x10mm*Layout15x15*P0.65mm*; Footprint: Package_BGA:UFBGA-201_10x10mm_Layout15x15_P0.65mm; Datasheet: https://www.st.com/resource/en/datasheet/stm32h563ii.pdf; Description_: STMicroelectronics Arm Cortex-M33 MCU, 2048KB flash, 640KB RAM, 250 MHz, 1.62-3.6V, 139 GPIO, UFBGA176
pins: A1 PI7, A2 PI5, A3 VCAP, A4 PB9, A5 BOOT0, A6 PB5, A7 PG15, A8 PG14, A9 PG10, A10 PD7, A11 PD5, A12 PD3, A13 PD1, A14 PI3, A15 PI1, B1 VBAT, B2 PE3, B3 PI4, B4 PE1, B5 PB8, B6 PB6, B7 PB3(JTDO, B8 PG12, B9 PG9, B10 PD6, B11 PD4, B12 PD0, B13 PA14(JTCK, B14 PI2, B15 PH13, C1 VSS, C2 PE6, C3 PE4, C4 PI6, C5 PE0, C6 PB7, C7 PB4(NJTRST), C8 PG13, C9 PG11, C10 PD2, C11 PC12, C12 PC11, C13 PA15(JTDI), C14 PH15, C15 PA12, D1 PC15, D2 PC14, D3 PE5, D4 PE2, D5 VDD, D6 VSS, D7 VDDIO2, D8 VDD, D9 VSS, D10 VDD, D11 VSS, D12 PC10, D13 PH14, D14 VSS, D15 PA11, E1 PI9, E2 PI8, E3 PC13, E4 VDD, E12 VDD, E13 PA13(JTMS, E14 PA10, E15 PA9, F1 PF1, F2 PF0, F3 PI11, F4 PI10, F6 VSS, F7 VSS, F8 VSS, F9 VSS, F10 VSS, F12 VDDUSB, F13 PC9, F14 PC8, F15 PA8, G1 PF4, G2 PF3, G3 PF2, G4 VSS, G6 VSS, G7 VSS, G8 VSS, G9 VSS, G10 VSS, G12 VSS, G13 PC7, G14 PC6, G15 PG8, H1 PF6, H2 PF8, H3 PF5, H4 VDD, H6 VSS, H7 VSS, H8 VSS, H9 VSS, H10 VSS, H12 VSS, H13 PG7, H14 PG3, H15 PG5, J1 PH0, J2 PH1, J3 PF9, J4 PF10, J6 VSS, J7 VSS, J8 VSS, J9 VSS, J10 VSS, J12 VDD, J13 PD15, J14 PG6, J15 PG4, K1 VSS, K2 PF7, K3 NRST, K4 PC2, K6 VSS, K7 VSS, K8 VSS, K9 VSS, K10 VSS, K12 PD10, K13 PD14, K14 PD12, K15 PG2, L1 PC0, L2 PC1, L3 PA1, L4 VDD, L12 PB12, L13 PD9, L14 PD11, L15 PD13, M1 VDDA, M2 VSSA, M3 PA2, M4 VSS, M5 PA4, M6 VDD, M7 VSS, M8 VDD, M9 VSS, M10 PB10, M11 VDD, M12 PH9, M13 PH12, M14 PB15, M15 PD8, N1 VREF+, N2 VREF-, N3 PC3, N4 PC4, N5 PA3, N6 PB1, N7 PF12, N8 PF15, N9 PE9, N10 PE14, N11 PE15, N12 PB11, N13 PH8, N14 PH10, N15 PB14, P1 PH5, P2 PA0, P3 PH3, P4 PC5, P5 PA6, P6 PB2, P7 PF13, P8 PG1, P9 PE8, P10 PE11, P11 PE13, P12 VSSSMPS, P13 PH6, P14 PH7, P15 PH11, R1 PH4, R2 PH2, R3 PA5, R4 PA7, R5 PB0, R6 PF11, R7 PF14, R8 PG0, R9 PE7, R10 PE10, R11 PE12, R12 VLXSMPS, R13 VDDSMPS, R14 VCAP, R15 PB13

## STM32H563IITx
designator *  value STM32H563IITx  Reference: U
STMicroelectronics Arm Cortex-M33 MCU, 2048KB flash, 640KB RAM, 250 MHz, 1.62-3.6V, 140 GPIO, LQFP176; ki_keywords: Arm Cortex-M33 STM32H5 STM32H563/H573; ki_fp_filters: LQFP*24x24mm*P0.5mm*; Footprint: Package_QFP:LQFP-176_24x24mm_P0.5mm; Datasheet: https://www.st.com/resource/en/datasheet/stm32h563ii.pdf; Description_: STMicroelectronics Arm Cortex-M33 MCU, 2048KB flash, 640KB RAM, 250 MHz, 1.62-3.6V, 140 GPIO, LQFP176
pins: 1 PE2, 2 PE3, 3 PE4, 4 PE5, 5 PE6, 6 VBAT, 7 PI8, 8 PC13, 9 PC14, 10 PC15, 11 PI9, 12 PI10, 13 PI11, 14 VSS, 15 VDD, 16 PF0, 17 PF1, 18 PF2, 19 PF3, 20 PF4, 21 PF5, 22 VSS, 23 VDD, 24 PF6, 25 PF7, 26 PF8, 27 PF9, 28 PF10, 29 PH0, 30 PH1, 31 NRST, 32 PC0, 33 PC1, 34 PC2, 35 PC3, 36 VDD, 37 VSSA, 38 VREF+, 39 VDDA, 40 PA0, 41 PA1, 42 PA2, 43 PH2, 44 PH3, 45 PH4, 46 PH5, 47 PA3, 48 VSS, 49 VDD, 50 PA4, 51 PA5, 52 PA6, 53 PA7, 54 PC4, 55 PC5, 56 PB0, 57 PB1, 58 PB2, 59 PF11, 60 PF12, 61 VSS, 62 VDD, 63 PF13, 64 PF14, 65 PF15, 66 PG0, 67 PG1, 68 PE7, 69 PE8, 70 PE9, 71 VSS, 72 VDD, 73 PE10, 74 PE11, 75 PE12, 76 PE13, 77 PE14, 78 PE15, 79 PB10, 80 PB11, 81 VCAP, 82 VSS, 83 VDD, 84 PH6, 85 PH7, 86 PH8, 87 PH9, 88 PH10, 89 PH11, 90 PH12, 91 VDD, 92 PB12, 93 PB13, 94 PB14, 95 PB15, 96 PD8, 97 PD9, 98 PD10, 99 PD11, 100 PD12, 101 PD13, 102 VSS, 103 VDD, 104 PD14, 105 PD15, 106 PG2, 107 PG3, 108 PG4, 109 PG5, 110 PG6, 111 PG7, 112 PG8, 113 VSS, 114 VDD, 115 PC6, 116 PC7, 117 PC8, 118 PC9, 119 PA8, 120 PA9, 121 PA10, 122 PA11, 123 PA12, 124 PA13(JTMS, 125 VDDUSB, 126 VSS, 127 VDD, 128 PH13, 129 PH14, 130 PH15, 131 PI0, 132 PI1, 133 PI2, 134 PI3, 135 VSS, 136 VDD, 137 PA14(JTCK, 138 PA15(JTDI), 139 PC10, 140 PC11, 141 PC12, 142 PD0, 143 PD1, 144 PD2, 145 PD3, 146 PD4, 147 PD5, 148 VSS, 149 VDDIO2, 150 PD6, 151 PD7, 152 PG9, 153 PG10, 154 PG11, 155 PG12, 156 PG13, 157 PG14, 158 VSS, 159 VDD, 160 PG15, 161 PB3(JTDO, 162 PB4(NJTRST), 163 PB5, 164 PB6, 165 PB7, 166 BOOT0, 167 PB8, 168 PB9, 169 PE0, 170 PE1, 171 VCAP, 172 VDD, 173 PI4, 174 PI5, 175 PI6, 176 PI7

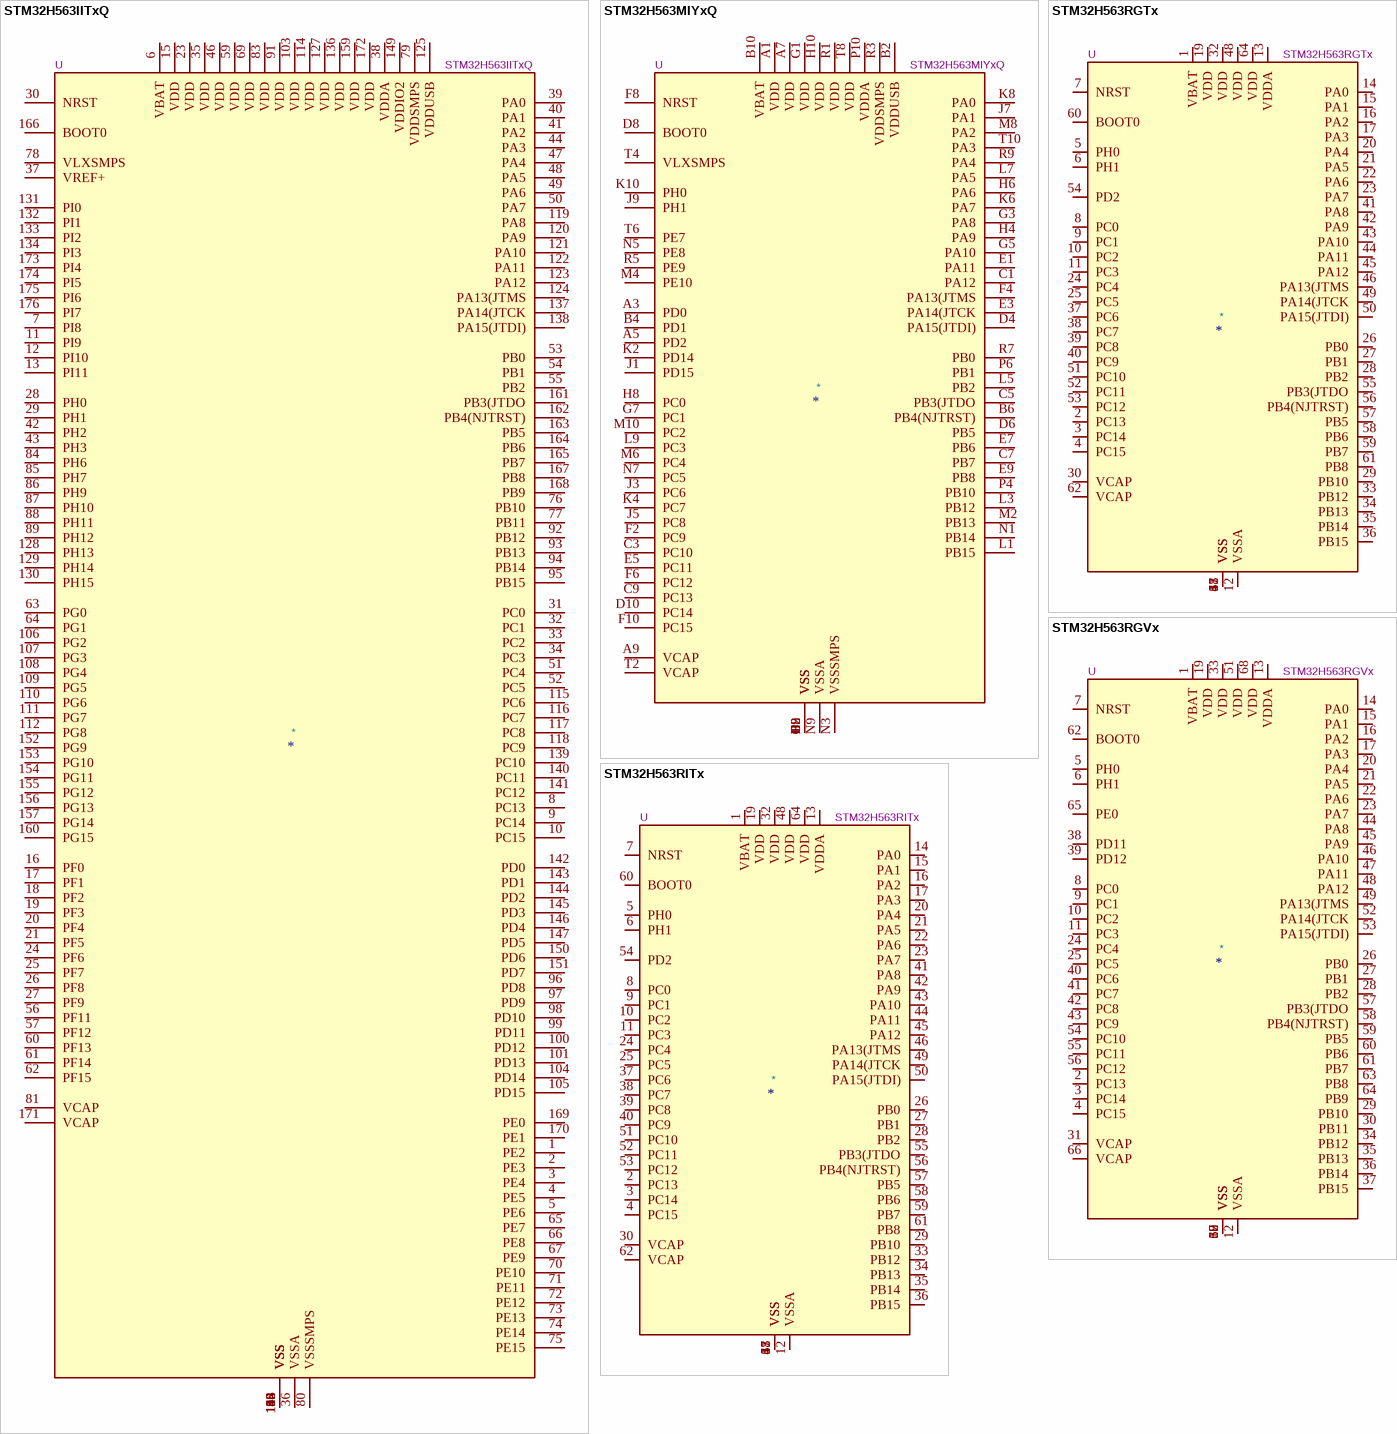
[diagram p14: symbols STM32H563IITxQ to STM32H563RITx]

## STM32H563IITxQ
designator *  value STM32H563IITxQ  Reference: U
STMicroelectronics Arm Cortex-M33 MCU, 2048KB flash, 640KB RAM, 250 MHz, 1.62-3.6V, 136 GPIO, LQFP176; ki_keywords: Arm Cortex-M33 STM32H5 STM32H563/H573; ki_fp_filters: LQFP*24x24mm*P0.5mm*; Footprint: Package_QFP:LQFP-176_24x24mm_P0.5mm; Datasheet: https://www.st.com/resource/en/datasheet/stm32h563ii.pdf; Description_: STMicroelectronics Arm Cortex-M33 MCU, 2048KB flash, 640KB RAM, 250 MHz, 1.62-3.6V, 136 GPIO, LQFP176
pins: 1 PE2, 2 PE3, 3 PE4, 4 PE5, 5 PE6, 6 VBAT, 7 PI8, 8 PC13, 9 PC14, 10 PC15, 11 PI9, 12 PI10, 13 PI11, 14 VSS, 15 VDD, 16 PF0, 17 PF1, 18 PF2, 19 PF3, 20 PF4, 21 PF5, 22 VSS, 23 VDD, 24 PF6, 25 PF7, 26 PF8, 27 PF9, 28 PH0, 29 PH1, 30 NRST, 31 PC0, 32 PC1, 33 PC2, 34 PC3, 35 VDD, 36 VSSA, 37 VREF+, 38 VDDA, 39 PA0, 40 PA1, 41 PA2, 42 PH2, 43 PH3, 44 PA3, 45 VSS, 46 VDD, 47 PA4, 48 PA5, 49 PA6, 50 PA7, 51 PC4, 52 PC5, 53 PB0, 54 PB1, 55 PB2, 56 PF11, 57 PF12, 58 VSS, 59 VDD, 60 PF13, 61 PF14, 62 PF15, 63 PG0, 64 PG1, 65 PE7, 66 PE8, 67 PE9, 68 VSS, 69 VDD, 70 PE10, 71 PE11, 72 PE12, 73 PE13, 74 PE14, 75 PE15, 76 PB10, 77 PB11, 78 VLXSMPS, 79 VDDSMPS, 80 VSSSMPS, 81 VCAP, 82 VSS, 83 VDD, 84 PH6, 85 PH7, 86 PH9, 87 PH10, 88 PH11, 89 PH12, 90 VSS, 91 VDD, 92 PB12, 93 PB13, 94 PB14, 95 PB15, 96 PD8, 97 PD9, 98 PD10, 99 PD11, 100 PD12, 101 PD13, 102 VSS, 103 VDD, 104 PD14, 105 PD15, 106 PG2, 107 PG3, 108 PG4, 109 PG5, 110 PG6, 111 PG7, 112 PG8, 113 VSS, 114 VDD, 115 PC6, 116 PC7, 117 PC8, 118 PC9, 119 PA8, 120 PA9, 121 PA10, 122 PA11, 123 PA12, 124 PA13(JTMS, 125 VDDUSB, 126 VSS, 127 VDD, 128 PH13, 129 PH14, 130 PH15, 131 PI0, 132 PI1, 133 PI2, 134 PI3, 135 VSS, 136 VDD, 137 PA14(JTCK, 138 PA15(JTDI), 139 PC10, 140 PC11, 141 PC12, 142 PD0, 143 PD1, 144 PD2, 145 PD3, 146 PD4, 147 PD5, 148 VSS, 149 VDDIO2, 150 PD6, 151 PD7, 152 PG9, 153 PG10, 154 PG11, 155 PG12, 156 PG13, 157 PG14, 158 VSS, 159 VDD, 160 PG15, 161 PB3(JTDO, 162 PB4(NJTRST), 163 PB5, 164 PB6, 165 PB7, 166 BOOT0, 167 PB8, 168 PB9, 169 PE0, 170 PE1, 171 VCAP, 172 VDD, 173 PI4, 174 PI5, 175 PI6, 176 PI7

## STM32H563MIYxQ
designator *  value STM32H563MIYxQ  Reference: U
STMicroelectronics Arm Cortex-M33 MCU, 2048KB flash, 640KB RAM, 250 MHz, 1.62-3.6V, 57 GPIO, WLCSP80; ki_keywords: Arm Cortex-M33 STM32H5 STM32H563/H573; ki_fp_filters: ST*WLCSP*3.5x3.27mm*Layout10x16*P0.35mm*Stagger*Offcenter*; Footprint: Package_CSP:ST_WLCSP-80_3.5x3.27mm_Layout10x16_P0.35mm_Stagger_Offcenter; Datasheet: https://www.st.com/resource/en/datasheet/stm32h563mi.pdf; Description_: STMicroelectronics Arm Cortex-M33 MCU, 2048KB flash, 640KB RAM, 250 MHz, 1.62-3.6V, 57 GPIO, WLCSP80
pins: A1 VDD, A3 PD0, A5 PD2, A7 VDD, A9 VCAP, B2 VDDUSB, B4 PD1, B6 PB4(NJTRST), B8 VSS, B10 VBAT, C1 PA12, C3 PC10, C5 PB3(JTDO, C7 PB7, C9 PC13, D2 VSS, D4 PA15(JTDI), D6 PB5, D8 BOOT0, D10 PC14, E1 PA11, E3 PA14(JTCK, E5 PC11, E7 PB6, E9 PB8, F2 PC9, F4 PA13(JTMS, F6 PC12, F8 NRST, F10 PC15, G1 VDD, G3 PA8, G5 PA10, G7 PC1, G9 VSS, H2 VSS, H4 PA9, H6 PA6, H8 PC0, H10 VDD, J1 PD15, J3 PC6, J5 PC8, J7 PA1, J9 PH1, K2 PD14, K4 PC7, K6 PA7, K8 PA0, K10 PH0, L1 PB15, L3 PB12, L5 PB2, L7 PA5, L9 PC3, M2 PB13, M4 PE10, M6 PC4, M8 PA2, M10 PC2, N1 PB14, N3 VSSSMPS, N5 PE8, N7 PC5, N9 VSSA, P2 VSS, P4 PB10, P6 PB1, P8 VSS, P10 VDDA, R1 VDD, R3 VDDSMPS, R5 PE9, R7 PB0, R9 PA4, T2 VCAP, T4 VLXSMPS, T6 PE7, T8 VDD, T10 PA3

## STM32H563RGTx
designator *  value STM32H563RGTx  Reference: U
STMicroelectronics Arm Cortex-M33 MCU, 1024KB flash, 640KB RAM, 250 MHz, 1.62-3.6V, 49 GPIO, LQFP64; ki_keywords: Arm Cortex-M33 STM32H5 STM32H563/H573; ki_fp_filters: LQFP*10x10mm*P0.5mm*; Footprint: Package_QFP:LQFP-64_10x10mm_P0.5mm; Datasheet: https://www.st.com/resource/en/datasheet/stm32h563rg.pdf; Description_: STMicroelectronics Arm Cortex-M33 MCU, 1024KB flash, 640KB RAM, 250 MHz, 1.62-3.6V, 49 GPIO, LQFP64
pins: 1 VBAT, 2 PC13, 3 PC14, 4 PC15, 5 PH0, 6 PH1, 7 NRST, 8 PC0, 9 PC1, 10 PC2, 11 PC3, 12 VSSA, 13 VDDA, 14 PA0, 15 PA1, 16 PA2, 17 PA3, 18 VSS, 19 VDD, 20 PA4, 21 PA5, 22 PA6, 23 PA7, 24 PC4, 25 PC5, 26 PB0, 27 PB1, 28 PB2, 29 PB10, 30 VCAP, 31 VSS, 32 VDD, 33 PB12, 34 PB13, 35 PB14, 36 PB15, 37 PC6, 38 PC7, 39 PC8, 40 PC9, 41 PA8, 42 PA9, 43 PA10, 44 PA11, 45 PA12, 46 PA13(JTMS, 47 VSS, 48 VDD, 49 PA14(JTCK, 50 PA15(JTDI), 51 PC10, 52 PC11, 53 PC12, 54 PD2, 55 PB3(JTDO, 56 PB4(NJTRST), 57 PB5, 58 PB6, 59 PB7, 60 BOOT0, 61 PB8, 62 VCAP, 63 VSS, 64 VDD

## STM32H563RGVx
designator *  value STM32H563RGVx  Reference: U
STMicroelectronics Arm Cortex-M33 MCU, 1024KB flash, 640KB RAM, 53 GPIO, VFQFPN68; ki_keywords: Arm Cortex-M33 STM32H5 STM32H5x3; ki_fp_filters: QFN*1EP*8x8mm*P0.4mm*; Footprint: Package_DFN_QFN:QFN-68-1EP_8x8mm_P0.4mm_EP6.4x6.4mm; Datasheet: https://www.st.com/resource/en/datasheet/stm32h563rg.pdf; Description_: STMicroelectronics Arm Cortex-M33 MCU, 1024KB flash, 640KB RAM, 53 GPIO, VFQFPN68
pins: 1 VBAT, 2 PC13, 3 PC14, 4 PC15, 5 PH0, 6 PH1, 7 NRST, 8 PC0, 9 PC1, 10 PC2, 11 PC3, 12 VSSA, 13 VDDA, 14 PA0, 15 PA1, 16 PA2, 17 PA3, 18 VSS, 19 VDD, 20 PA4, 21 PA5, 22 PA6, 23 PA7, 24 PC4, 25 PC5, 26 PB0, 27 PB1, 28 PB2, 29 PB10, 30 PB11, 31 VCAP, 32 VSS, 33 VDD, 34 PB12, 35 PB13, 36 PB14, 37 PB15, 38 PD11, 39 PD12, 40 PC6, 41 PC7, 42 PC8, 43 PC9, 44 PA8, 45 PA9, 46 PA10, 47 PA11, 48 PA12, 49 PA13(JTMS, 50 VSS, 51 VDD, 52 PA14(JTCK, 53 PA15(JTDI), 54 PC10, 55 PC11, 56 PC12, 57 PB3(JTDO, 58 PB4(NJTRST), 59 PB5, 60 PB6, 61 PB7, 62 BOOT0, 63 PB8, 64 PB9, 65 PE0, 66 VCAP, 67 VSS, 68 VDD, 69 VSS

## STM32H563RITx
designator *  value STM32H563RITx  Reference: U
STMicroelectronics Arm Cortex-M33 MCU, 2048KB flash, 640KB RAM, 250 MHz, 1.62-3.6V, 49 GPIO, LQFP64; ki_keywords: Arm Cortex-M33 STM32H5 STM32H563/H573; ki_fp_filters: LQFP*10x10mm*P0.5mm*; Footprint: Package_QFP:LQFP-64_10x10mm_P0.5mm; Datasheet: https://www.st.com/resource/en/datasheet/stm32h563ri.pdf; Description_: STMicroelectronics Arm Cortex-M33 MCU, 2048KB flash, 640KB RAM, 250 MHz, 1.62-3.6V, 49 GPIO, LQFP64
pins: 1 VBAT, 2 PC13, 3 PC14, 4 PC15, 5 PH0, 6 PH1, 7 NRST, 8 PC0, 9 PC1, 10 PC2, 11 PC3, 12 VSSA, 13 VDDA, 14 PA0, 15 PA1, 16 PA2, 17 PA3, 18 VSS, 19 VDD, 20 PA4, 21 PA5, 22 PA6, 23 PA7, 24 PC4, 25 PC5, 26 PB0, 27 PB1, 28 PB2, 29 PB10, 30 VCAP, 31 VSS, 32 VDD, 33 PB12, 34 PB13, 35 PB14, 36 PB15, 37 PC6, 38 PC7, 39 PC8, 40 PC9, 41 PA8, 42 PA9, 43 PA10, 44 PA11, 45 PA12, 46 PA13(JTMS, 47 VSS, 48 VDD, 49 PA14(JTCK, 50 PA15(JTDI), 51 PC10, 52 PC11, 53 PC12, 54 PD2, 55 PB3(JTDO, 56 PB4(NJTRST), 57 PB5, 58 PB6, 59 PB7, 60 BOOT0, 61 PB8, 62 VCAP, 63 VSS, 64 VDD

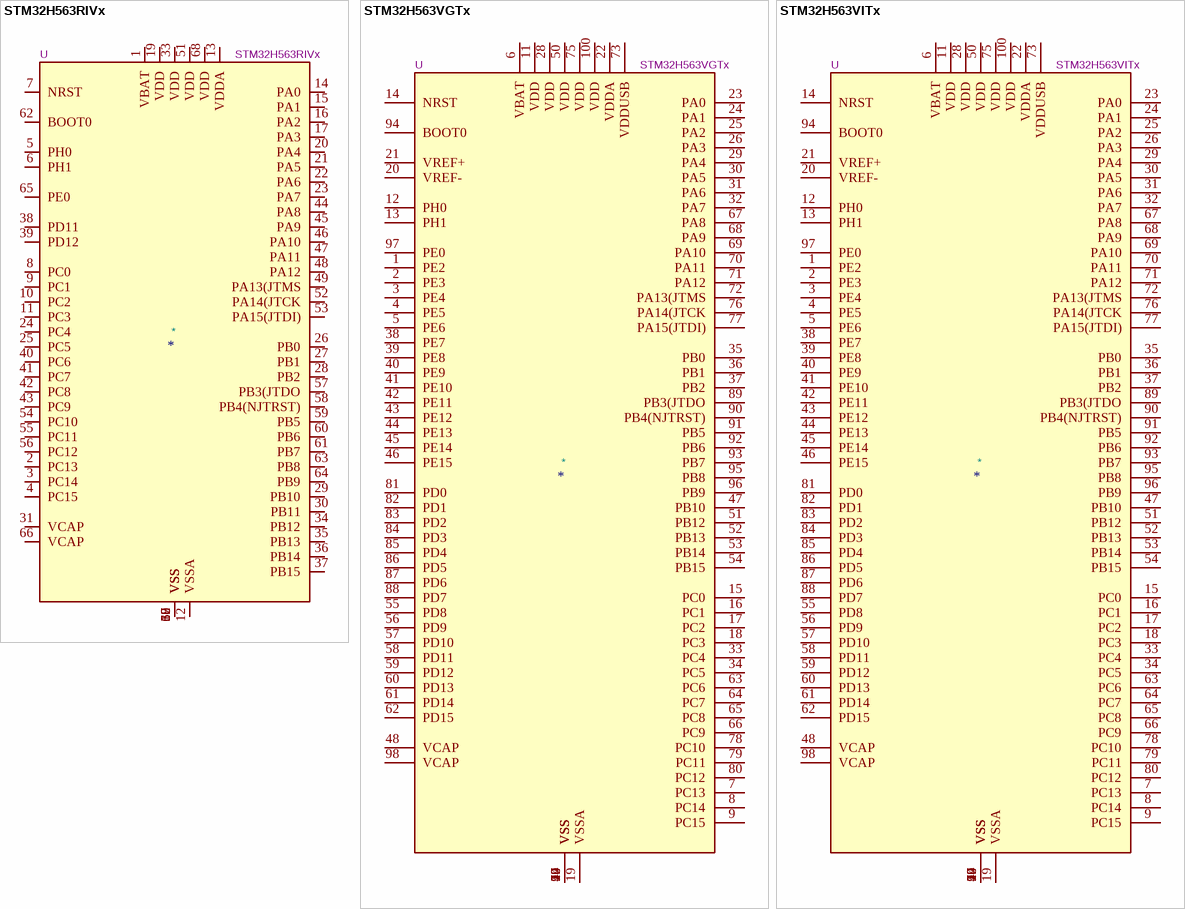
[diagram p15: symbols STM32H563RIVx to STM32H563VITx]

## STM32H563RIVx
designator *  value STM32H563RIVx  Reference: U
STMicroelectronics Arm Cortex-M33 MCU, 2048KB flash, 640KB RAM, 250 MHz, 1.62-3.6V, 53 GPIO, VFQFPN68; ki_keywords: Arm Cortex-M33 STM32H5 STM32H563/H573; ki_fp_filters: QFN*1EP*8x8mm*P0.4mm*; Footprint: Package_DFN_QFN:QFN-68-1EP_8x8mm_P0.4mm_EP6.4x6.4mm; Datasheet: https://www.st.com/resource/en/datasheet/stm32h563ri.pdf; Description_: STMicroelectronics Arm Cortex-M33 MCU, 2048KB flash, 640KB RAM, 250 MHz, 1.62-3.6V, 53 GPIO, VFQFPN68
pins: 1 VBAT, 2 PC13, 3 PC14, 4 PC15, 5 PH0, 6 PH1, 7 NRST, 8 PC0, 9 PC1, 10 PC2, 11 PC3, 12 VSSA, 13 VDDA, 14 PA0, 15 PA1, 16 PA2, 17 PA3, 18 VSS, 19 VDD, 20 PA4, 21 PA5, 22 PA6, 23 PA7, 24 PC4, 25 PC5, 26 PB0, 27 PB1, 28 PB2, 29 PB10, 30 PB11, 31 VCAP, 32 VSS, 33 VDD, 34 PB12, 35 PB13, 36 PB14, 37 PB15, 38 PD11, 39 PD12, 40 PC6, 41 PC7, 42 PC8, 43 PC9, 44 PA8, 45 PA9, 46 PA10, 47 PA11, 48 PA12, 49 PA13(JTMS, 50 VSS, 51 VDD, 52 PA14(JTCK, 53 PA15(JTDI), 54 PC10, 55 PC11, 56 PC12, 57 PB3(JTDO, 58 PB4(NJTRST), 59 PB5, 60 PB6, 61 PB7, 62 BOOT0, 63 PB8, 64 PB9, 65 PE0, 66 VCAP, 67 VSS, 68 VDD, 69 VSS

## STM32H563VGTx
designator *  value STM32H563VGTx  Reference: U
STMicroelectronics Arm Cortex-M33 MCU, 1024KB flash, 640KB RAM, 250 MHz, 1.62-3.6V, 80 GPIO, LQFP100; ki_keywords: Arm Cortex-M33 STM32H5 STM32H563/H573; ki_fp_filters: LQFP*14x14mm*P0.5mm*; Footprint: Package_QFP:LQFP-100_14x14mm_P0.5mm; Datasheet: https://www.st.com/resource/en/datasheet/stm32h563vg.pdf; Description_: STMicroelectronics Arm Cortex-M33 MCU, 1024KB flash, 640KB RAM, 250 MHz, 1.62-3.6V, 80 GPIO, LQFP100
pins: 1 PE2, 2 PE3, 3 PE4, 4 PE5, 5 PE6, 6 VBAT, 7 PC13, 8 PC14, 9 PC15, 10 VSS, 11 VDD, 12 PH0, 13 PH1, 14 NRST, 15 PC0, 16 PC1, 17 PC2, 18 PC3, 19 VSSA, 20 VREF-, 21 VREF+, 22 VDDA, 23 PA0, 24 PA1, 25 PA2, 26 PA3, 27 VSS, 28 VDD, 29 PA4, 30 PA5, 31 PA6, 32 PA7, 33 PC4, 34 PC5, 35 PB0, 36 PB1, 37 PB2, 38 PE7, 39 PE8, 40 PE9, 41 PE10, 42 PE11, 43 PE12, 44 PE13, 45 PE14, 46 PE15, 47 PB10, 48 VCAP, 49 VSS, 50 VDD, 51 PB12, 52 PB13, 53 PB14, 54 PB15, 55 PD8, 56 PD9, 57 PD10, 58 PD11, 59 PD12, 60 PD13, 61 PD14, 62 PD15, 63 PC6, 64 PC7, 65 PC8, 66 PC9, 67 PA8, 68 PA9, 69 PA10, 70 PA11, 71 PA12, 72 PA13(JTMS, 73 VDDUSB, 74 VSS, 75 VDD, 76 PA14(JTCK, 77 PA15(JTDI), 78 PC10, 79 PC11, 80 PC12, 81 PD0, 82 PD1, 83 PD2, 84 PD3, 85 PD4, 86 PD5, 87 PD6, 88 PD7, 89 PB3(JTDO, 90 PB4(NJTRST), 91 PB5, 92 PB6, 93 PB7, 94 BOOT0, 95 PB8, 96 PB9, 97 PE0, 98 VCAP, 99 VSS, 100 VDD

## STM32H563VITx
designator *  value STM32H563VITx  Reference: U
STMicroelectronics Arm Cortex-M33 MCU, 2048KB flash, 640KB RAM, 250 MHz, 1.62-3.6V, 80 GPIO, LQFP100; ki_keywords: Arm Cortex-M33 STM32H5 STM32H563/H573; ki_fp_filters: LQFP*14x14mm*P0.5mm*; Footprint: Package_QFP:LQFP-100_14x14mm_P0.5mm; Datasheet: https://www.st.com/resource/en/datasheet/stm32h563vi.pdf; Description_: STMicroelectronics Arm Cortex-M33 MCU, 2048KB flash, 640KB RAM, 250 MHz, 1.62-3.6V, 80 GPIO, LQFP100
pins: 1 PE2, 2 PE3, 3 PE4, 4 PE5, 5 PE6, 6 VBAT, 7 PC13, 8 PC14, 9 PC15, 10 VSS, 11 VDD, 12 PH0, 13 PH1, 14 NRST, 15 PC0, 16 PC1, 17 PC2, 18 PC3, 19 VSSA, 20 VREF-, 21 VREF+, 22 VDDA, 23 PA0, 24 PA1, 25 PA2, 26 PA3, 27 VSS, 28 VDD, 29 PA4, 30 PA5, 31 PA6, 32 PA7, 33 PC4, 34 PC5, 35 PB0, 36 PB1, 37 PB2, 38 PE7, 39 PE8, 40 PE9, 41 PE10, 42 PE11, 43 PE12, 44 PE13, 45 PE14, 46 PE15, 47 PB10, 48 VCAP, 49 VSS, 50 VDD, 51 PB12, 52 PB13, 53 PB14, 54 PB15, 55 PD8, 56 PD9, 57 PD10, 58 PD11, 59 PD12, 60 PD13, 61 PD14, 62 PD15, 63 PC6, 64 PC7, 65 PC8, 66 PC9, 67 PA8, 68 PA9, 69 PA10, 70 PA11, 71 PA12, 72 PA13(JTMS, 73 VDDUSB, 74 VSS, 75 VDD, 76 PA14(JTCK, 77 PA15(JTDI), 78 PC10, 79 PC11, 80 PC12, 81 PD0, 82 PD1, 83 PD2, 84 PD3, 85 PD4, 86 PD5, 87 PD6, 88 PD7, 89 PB3(JTDO, 90 PB4(NJTRST), 91 PB5, 92 PB6, 93 PB7, 94 BOOT0, 95 PB8, 96 PB9, 97 PE0, 98 VCAP, 99 VSS, 100 VDD

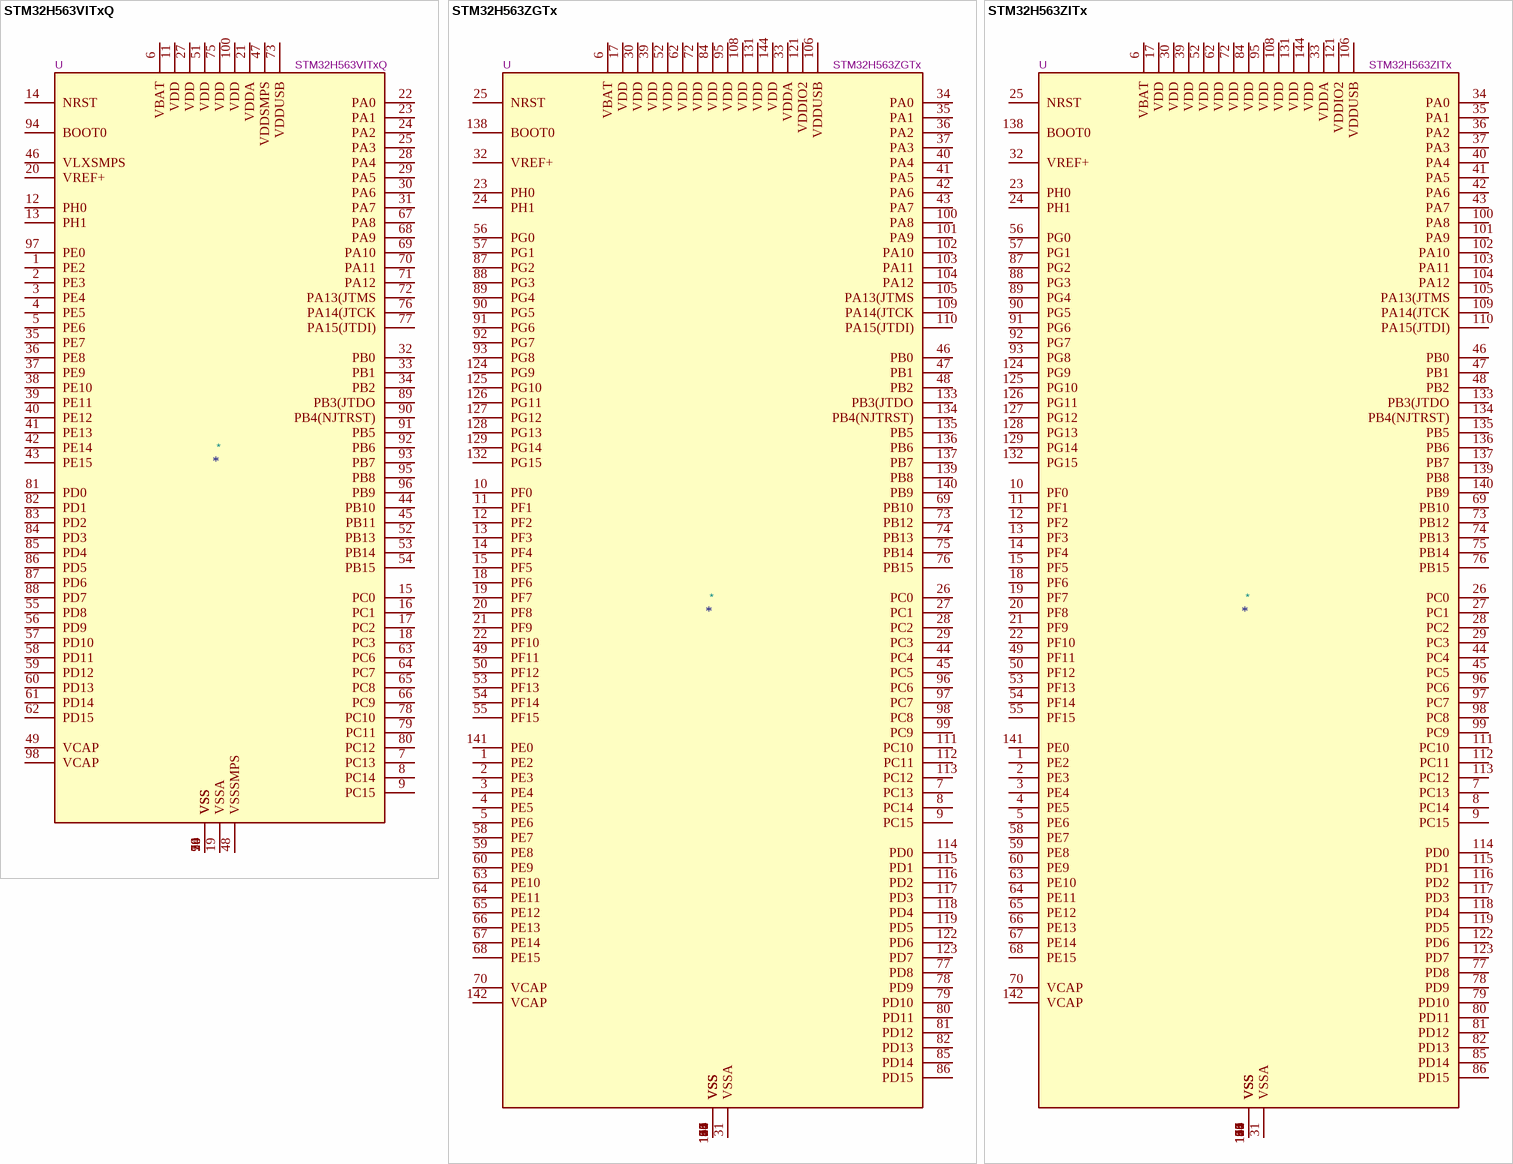
[diagram p16: symbols STM32H563VITxQ to STM32H563ZITx]

## STM32H563VITxQ
designator *  value STM32H563VITxQ  Reference: U
STMicroelectronics Arm Cortex-M33 MCU, 2048KB flash, 640KB RAM, 250 MHz, 1.62-3.6V, 78 GPIO, LQFP100; ki_keywords: Arm Cortex-M33 STM32H5 STM32H563/H573; ki_fp_filters: LQFP*14x14mm*P0.5mm*; Footprint: Package_QFP:LQFP-100_14x14mm_P0.5mm; Datasheet: https://www.st.com/resource/en/datasheet/stm32h563vi.pdf; Description_: STMicroelectronics Arm Cortex-M33 MCU, 2048KB flash, 640KB RAM, 250 MHz, 1.62-3.6V, 78 GPIO, LQFP100
pins: 1 PE2, 2 PE3, 3 PE4, 4 PE5, 5 PE6, 6 VBAT, 7 PC13, 8 PC14, 9 PC15, 10 VSS, 11 VDD, 12 PH0, 13 PH1, 14 NRST, 15 PC0, 16 PC1, 17 PC2, 18 PC3, 19 VSSA, 20 VREF+, 21 VDDA, 22 PA0, 23 PA1, 24 PA2, 25 PA3, 26 VSS, 27 VDD, 28 PA4, 29 PA5, 30 PA6, 31 PA7, 32 PB0, 33 PB1, 34 PB2, 35 PE7, 36 PE8, 37 PE9, 38 PE10, 39 PE11, 40 PE12, 41 PE13, 42 PE14, 43 PE15, 44 PB10, 45 PB11, 46 VLXSMPS, 47 VDDSMPS, 48 VSSSMPS, 49 VCAP, 50 VSS, 51 VDD, 52 PB13, 53 PB14, 54 PB15, 55 PD8, 56 PD9, 57 PD10, 58 PD11, 59 PD12, 60 PD13, 61 PD14, 62 PD15, 63 PC6, 64 PC7, 65 PC8, 66 PC9, 67 PA8, 68 PA9, 69 PA10, 70 PA11, 71 PA12, 72 PA13(JTMS, 73 VDDUSB, 74 VSS, 75 VDD, 76 PA14(JTCK, 77 PA15(JTDI), 78 PC10, 79 PC11, 80 PC12, 81 PD0, 82 PD1, 83 PD2, 84 PD3, 85 PD4, 86 PD5, 87 PD6, 88 PD7, 89 PB3(JTDO, 90 PB4(NJTRST), 91 PB5, 92 PB6, 93 PB7, 94 BOOT0, 95 PB8, 96 PB9, 97 PE0, 98 VCAP, 99 VSS, 100 VDD

## STM32H563ZGTx
designator *  value STM32H563ZGTx  Reference: U
STMicroelectronics Arm Cortex-M33 MCU, 1024KB flash, 640KB RAM, 112 GPIO, LQFP144; ki_keywords: Arm Cortex-M33 STM32H5 STM32H5x3; ki_fp_filters: LQFP*20x20mm*P0.5mm*; Footprint: Package_QFP:LQFP-144_20x20mm_P0.5mm; Datasheet: https://www.st.com/resource/en/datasheet/stm32h563zg.pdf; Description_: STMicroelectronics Arm Cortex-M33 MCU, 1024KB flash, 640KB RAM, 112 GPIO, LQFP144
pins: 1 PE2, 2 PE3, 3 PE4, 4 PE5, 5 PE6, 6 VBAT, 7 PC13, 8 PC14, 9 PC15, 10 PF0, 11 PF1, 12 PF2, 13 PF3, 14 PF4, 15 PF5, 16 VSS, 17 VDD, 18 PF6, 19 PF7, 20 PF8, 21 PF9, 22 PF10, 23 PH0, 24 PH1, 25 NRST, 26 PC0, 27 PC1, 28 PC2, 29 PC3, 30 VDD, 31 VSSA, 32 VREF+, 33 VDDA, 34 PA0, 35 PA1, 36 PA2, 37 PA3, 38 VSS, 39 VDD, 40 PA4, 41 PA5, 42 PA6, 43 PA7, 44 PC4, 45 PC5, 46 PB0, 47 PB1, 48 PB2, 49 PF11, 50 PF12, 51 VSS, 52 VDD, 53 PF13, 54 PF14, 55 PF15, 56 PG0, 57 PG1, 58 PE7, 59 PE8, 60 PE9, 61 VSS, 62 VDD, 63 PE10, 64 PE11, 65 PE12, 66 PE13, 67 PE14, 68 PE15, 69 PB10, 70 VCAP, 71 VSS, 72 VDD, 73 PB12, 74 PB13, 75 PB14, 76 PB15, 77 PD8, 78 PD9, 79 PD10, 80 PD11, 81 PD12, 82 PD13, 83 VSS, 84 VDD, 85 PD14, 86 PD15, 87 PG2, 88 PG3, 89 PG4, 90 PG5, 91 PG6, 92 PG7, 93 PG8, 94 VSS, 95 VDD, 96 PC6, 97 PC7, 98 PC8, 99 PC9, 100 PA8, 101 PA9, 102 PA10, 103 PA11, 104 PA12, 105 PA13(JTMS, 106 VDDUSB, 107 VSS, 108 VDD, 109 PA14(JTCK, 110 PA15(JTDI), 111 PC10, 112 PC11, 113 PC12, 114 PD0, 115 PD1, 116 PD2, 117 PD3, 118 PD4, 119 PD5, 120 VSS, 121 VDDIO2, 122 PD6, 123 PD7, 124 PG9, 125 PG10, 126 PG11, 127 PG12, 128 PG13, 129 PG14, 130 VSS, 131 VDD, 132 PG15, 133 PB3(JTDO, 134 PB4(NJTRST), 135 PB5, 136 PB6, 137 PB7, 138 BOOT0, 139 PB8, 140 PB9, 141 PE0, 142 VCAP, 143 VSS, 144 VDD

## STM32H563ZITx
designator *  value STM32H563ZITx  Reference: U
STMicroelectronics Arm Cortex-M33 MCU, 2048KB flash, 640KB RAM, 250 MHz, 1.62-3.6V, 112 GPIO, LQFP144; ki_keywords: Arm Cortex-M33 STM32H5 STM32H563/H573; ki_fp_filters: LQFP*20x20mm*P0.5mm*; Footprint: Package_QFP:LQFP-144_20x20mm_P0.5mm; Datasheet: https://www.st.com/resource/en/datasheet/stm32h563zi.pdf; Description_: STMicroelectronics Arm Cortex-M33 MCU, 2048KB flash, 640KB RAM, 250 MHz, 1.62-3.6V, 112 GPIO, LQFP144
pins: 1 PE2, 2 PE3, 3 PE4, 4 PE5, 5 PE6, 6 VBAT, 7 PC13, 8 PC14, 9 PC15, 10 PF0, 11 PF1, 12 PF2, 13 PF3, 14 PF4, 15 PF5, 16 VSS, 17 VDD, 18 PF6, 19 PF7, 20 PF8, 21 PF9, 22 PF10, 23 PH0, 24 PH1, 25 NRST, 26 PC0, 27 PC1, 28 PC2, 29 PC3, 30 VDD, 31 VSSA, 32 VREF+, 33 VDDA, 34 PA0, 35 PA1, 36 PA2, 37 PA3, 38 VSS, 39 VDD, 40 PA4, 41 PA5, 42 PA6, 43 PA7, 44 PC4, 45 PC5, 46 PB0, 47 PB1, 48 PB2, 49 PF11, 50 PF12, 51 VSS, 52 VDD, 53 PF13, 54 PF14, 55 PF15, 56 PG0, 57 PG1, 58 PE7, 59 PE8, 60 PE9, 61 VSS, 62 VDD, 63 PE10, 64 PE11, 65 PE12, 66 PE13, 67 PE14, 68 PE15, 69 PB10, 70 VCAP, 71 VSS, 72 VDD, 73 PB12, 74 PB13, 75 PB14, 76 PB15, 77 PD8, 78 PD9, 79 PD10, 80 PD11, 81 PD12, 82 PD13, 83 VSS, 84 VDD, 85 PD14, 86 PD15, 87 PG2, 88 PG3, 89 PG4, 90 PG5, 91 PG6, 92 PG7, 93 PG8, 94 VSS, 95 VDD, 96 PC6, 97 PC7, 98 PC8, 99 PC9, 100 PA8, 101 PA9, 102 PA10, 103 PA11, 104 PA12, 105 PA13(JTMS, 106 VDDUSB, 107 VSS, 108 VDD, 109 PA14(JTCK, 110 PA15(JTDI), 111 PC10, 112 PC11, 113 PC12, 114 PD0, 115 PD1, 116 PD2, 117 PD3, 118 PD4, 119 PD5, 120 VSS, 121 VDDIO2, 122 PD6, 123 PD7, 124 PG9, 125 PG10, 126 PG11, 127 PG12, 128 PG13, 129 PG14, 130 VSS, 131 VDD, 132 PG15, 133 PB3(JTDO, 134 PB4(NJTRST), 135 PB5, 136 PB6, 137 PB7, 138 BOOT0, 139 PB8, 140 PB9, 141 PE0, 142 VCAP, 143 VSS, 144 VDD

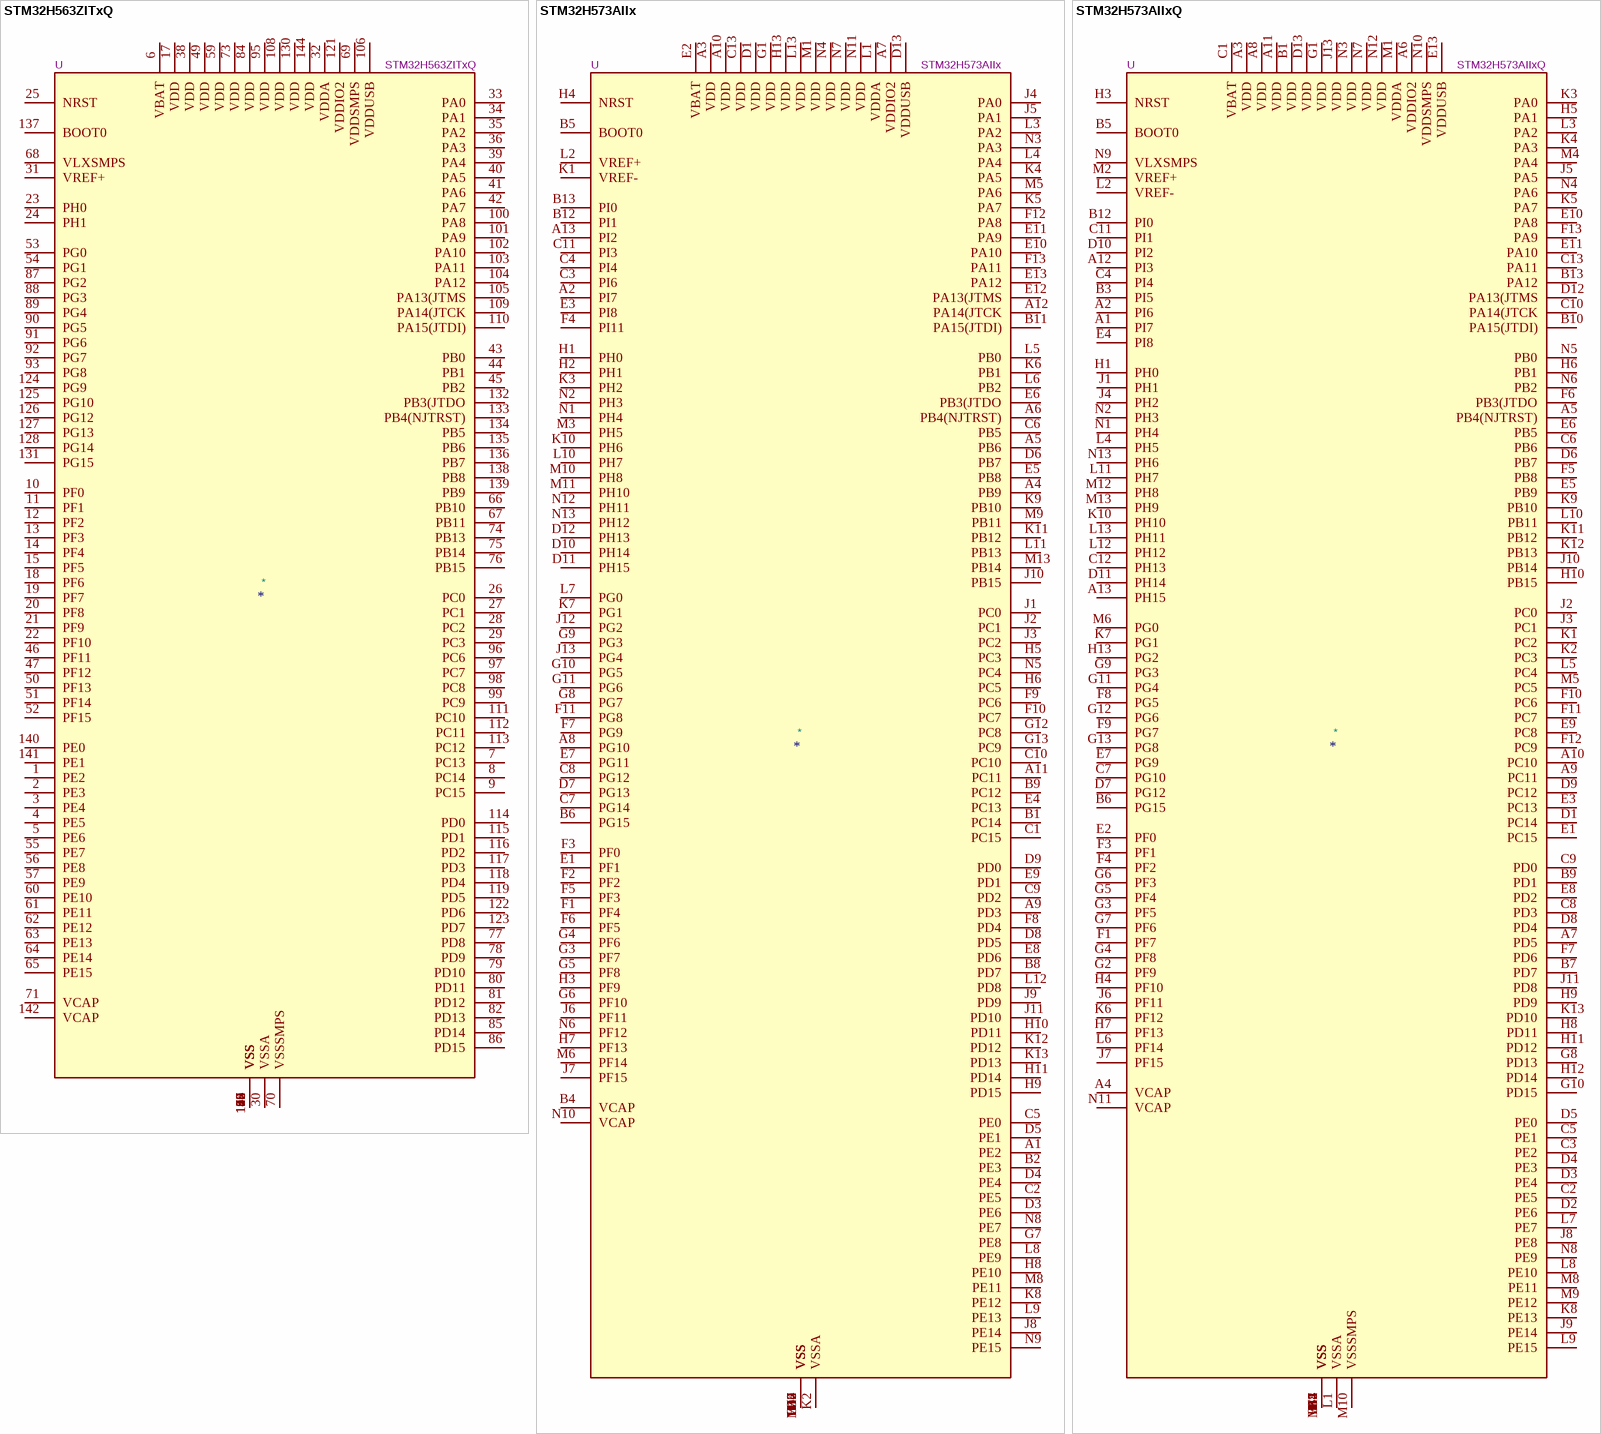
[diagram p17: symbols STM32H563ZITxQ to STM32H573AIIxQ]

## STM32H563ZITxQ
designator *  value STM32H563ZITxQ  Reference: U
STMicroelectronics Arm Cortex-M33 MCU, 2048KB flash, 640KB RAM, 250 MHz, 1.62-3.6V, 110 GPIO, LQFP144; ki_keywords: Arm Cortex-M33 STM32H5 STM32H563/H573; ki_fp_filters: LQFP*20x20mm*P0.5mm*; Footprint: Package_QFP:LQFP-144_20x20mm_P0.5mm; Datasheet: https://www.st.com/resource/en/datasheet/stm32h563zi.pdf; Description_: STMicroelectronics Arm Cortex-M33 MCU, 2048KB flash, 640KB RAM, 250 MHz, 1.62-3.6V, 110 GPIO, LQFP144
pins: 1 PE2, 2 PE3, 3 PE4, 4 PE5, 5 PE6, 6 VBAT, 7 PC13, 8 PC14, 9 PC15, 10 PF0, 11 PF1, 12 PF2, 13 PF3, 14 PF4, 15 PF5, 16 VSS, 17 VDD, 18 PF6, 19 PF7, 20 PF8, 21 PF9, 22 PF10, 23 PH0, 24 PH1, 25 NRST, 26 PC0, 27 PC1, 28 PC2, 29 PC3, 30 VSSA, 31 VREF+, 32 VDDA, 33 PA0, 34 PA1, 35 PA2, 36 PA3, 37 VSS, 38 VDD, 39 PA4, 40 PA5, 41 PA6, 42 PA7, 43 PB0, 44 PB1, 45 PB2, 46 PF11, 47 PF12, 48 VSS, 49 VDD, 50 PF13, 51 PF14, 52 PF15, 53 PG0, 54 PG1, 55 PE7, 56 PE8, 57 PE9, 58 VSS, 59 VDD, 60 PE10, 61 PE11, 62 PE12, 63 PE13, 64 PE14, 65 PE15, 66 PB10, 67 PB11, 68 VLXSMPS, 69 VDDSMPS, 70 VSSSMPS, 71 VCAP, 72 VSS, 73 VDD, 74 PB13, 75 PB14, 76 PB15, 77 PD8, 78 PD9, 79 PD10, 80 PD11, 81 PD12, 82 PD13, 83 VSS, 84 VDD, 85 PD14, 86 PD15, 87 PG2, 88 PG3, 89 PG4, 90 PG5, 91 PG6, 92 PG7, 93 PG8, 94 VSS, 95 VDD, 96 PC6, 97 PC7, 98 PC8, 99 PC9, 100 PA8, 101 PA9, 102 PA10, 103 PA11, 104 PA12, 105 PA13(JTMS, 106 VDDUSB, 107 VSS, 108 VDD, 109 PA14(JTCK, 110 PA15(JTDI), 111 PC10, 112 PC11, 113 PC12, 114 PD0, 115 PD1, 116 PD2, 117 PD3, 118 PD4, 119 PD5, 120 VSS, 121 VDDIO2, 122 PD6, 123 PD7, 124 PG9, 125 PG10, 126 PG12, 127 PG13, 128 PG14, 129 VSS, 130 VDD, 131 PG15, 132 PB3(JTDO, 133 PB4(NJTRST), 134 PB5, 135 PB6, 136 PB7, 137 BOOT0, 138 PB8, 139 PB9, 140 PE0, 141 PE1, 142 VCAP, 143 VSS, 144 VDD

## STM32H573AIIx
designator *  value STM32H573AIIx  Reference: U
STMicroelectronics Arm Cortex-M33 MCU, 2048KB flash, 640KB RAM, 250 MHz, 1.62-3.6V, 136 GPIO, UFBGA169; ki_keywords: Arm Cortex-M33 STM32H5 STM32H563/H573; ki_fp_filters: UFBGA*7x7mm*Layout13x13*P0.5mm*; Footprint: Package_BGA:UFBGA-169_7x7mm_Layout13x13_P0.5mm; Datasheet: https://www.st.com/resource/en/datasheet/stm32h573ai.pdf; Description_: STMicroelectronics Arm Cortex-M33 MCU, 2048KB flash, 640KB RAM, 250 MHz, 1.62-3.6V, 136 GPIO, UFBGA169
pins: A1 PE2, A2 PI7, A3 VDD, A4 PB9, A5 PB6, A6 PB4(NJTRST), A7 VDDIO2, A8 PG10, A9 PD3, A10 VDD, A11 PC11, A12 PA14(JTCK, A13 PI2, B1 PC14, B2 PE3, B3 VSS, B4 VCAP, B5 BOOT0, B6 PG15, B7 VSS, B8 PD7, B9 PC12, B10 VSS, B11 PA15(JTDI), B12 PI1, B13 PI0, C1 PC15, C2 PE5, C3 PI6, C4 PI4, C5 PE0, C6 PB5, C7 PG14, C8 PG12, C9 PD2, C10 PC10, C11 PI3, C12 VSS, C13 VDD, D1 VDD, D2 VSS, D3 PE6, D4 PE4, D5 PE1, D6 PB7, D7 PG13, D8 PD5, D9 PD0, D10 PH14, D11 PH15, D12 PH13, D13 VDDUSB, E1 PF1, E2 VBAT, E3 PI8, E4 PC13, E5 PB8, E6 PB3(JTDO, E7 PG11, E8 PD6, E9 PD1, E10 PA10, E11 PA9, E12 PA13(JTMS, E13 PA12, F1 PF4, F2 PF2, F3 PF0, F4 PI11, F5 PF3, F6 PF5, F7 PG9, F8 PD4, F9 PC6, F10 PC7, F11 PG8, F12 PA8, F13 PA11, G1 VDD, G2 VSS, G3 PF7, G4 PF6, G5 PF8, G6 PF10, G7 PE8, G8 PG7, G9 PG3, G10 PG5, G11 PG6, G12 PC8, G13 PC9, H1 PH0, H2 PH1, H3 PF9, H4 NRST, H5 PC3, H6 PC5, H7 PF13, H8 PE10, H9 PD15, H10 PD11, H11 PD14, H12 VSS, H13 VDD, J1 PC0, J2 PC1, J3 PC2, J4 PA0, J5 PA1, J6 PF11, J7 PF15, J8 PE14, J9 PD9, J10 PB15, J11 PD10, J12 PG2, J13 PG4, K1 VREF-, K2 VSSA, K3 PH2, K4 PA5, K5 PA7, K6 PB1, K7 PG1, K8 PE12, K9 PB10, K10 PH6, K11 PB12, K12 PD12, K13 PD13, L1 VDDA, L2 VREF+, L3 PA2, L4 PA4, L5 PB0, L6 PB2, L7 PG0, L8 PE9, L9 PE13, L10 PH7, L11 PB13, L12 PD8, L13 VDD, M1 VDD, M2 VSS, M3 PH5, M4 VSS, M5 PA6, M6 PF14, M7 VSS, M8 PE11, M9 PB11, M10 PH8, M11 PH10, M12 VSS, M13 PB14, N1 PH4, N2 PH3, N3 PA3, N4 VDD, N5 PC4, N6 PF12, N7 VDD, N8 PE7, N9 PE15, N10 VCAP, N11 VDD, N12 PH11, N13 PH12

## STM32H573AIIxQ
designator *  value STM32H573AIIxQ  Reference: U
STMicroelectronics Arm Cortex-M33 MCU, 2048KB flash, 640KB RAM, 250 MHz, 1.62-3.6V, 134 GPIO, UFBGA169; ki_keywords: Arm Cortex-M33 STM32H5 STM32H563/H573; ki_fp_filters: UFBGA*7x7mm*Layout13x13*P0.5mm*; Footprint: Package_BGA:UFBGA-169_7x7mm_Layout13x13_P0.5mm; Datasheet: https://www.st.com/resource/en/datasheet/stm32h573ai.pdf; Description_: STMicroelectronics Arm Cortex-M33 MCU, 2048KB flash, 640KB RAM, 250 MHz, 1.62-3.6V, 134 GPIO, UFBGA169
pins: A1 PI7, A2 PI6, A3 VDD, A4 VCAP, A5 PB4(NJTRST), A6 VDDIO2, A7 PD5, A8 VDD, A9 PC11, A10 PC10, A11 VDD, A12 PI3, A13 PH15, B1 VDD, B2 VSS, B3 PI5, B4 VSS, B5 BOOT0, B6 PG15, B7 PD7, B8 VSS, B9 PD1, B10 PA15(JTDI), B11 VSS, B12 PI0, B13 PA12, C1 VBAT, C2 PE5, C3 PE2, C4 PI4, C5 PE1, C6 PB6, C7 PG10, C8 PD3, C9 PD0, C10 PA14(JTCK, C11 PI1, C12 PH13, C13 PA11, D1 PC14, D2 PE6, D3 PE4, D4 PE3, D5 PE0, D6 PB7, D7 PG12, D8 PD4, D9 PC12, D10 PI2, D11 PH14, D12 PA13(JTMS, D13 VDD, E1 PC15, E2 PF0, E3 PC13, E4 PI8, E5 PB9, E6 PB5, E7 PG9, E8 PD2, E9 PC8, E10 PA8, E11 PA10, E12 VSS, E13 VDDUSB, F1 PF7, F2 VSS, F3 PF1, F4 PF2, F5 PB8, F6 PB3(JTDO, F7 PD6, F8 PG5, F9 PG7, F10 PC6, F11 PC7, F12 PC9, F13 PA9, G1 VDD, G2 PF9, G3 PF5, G4 PF8, G5 PF4, G6 PF3, G7 PF6, G8 PD13, G9 PG3, G10 PD15, G11 PG4, G12 PG6, G13 PG8, H1 PH0, H2 VSS, H3 NRST, H4 PF10, H5 PA1, H6 PB1, H7 PF13, H8 PD11, H9 PD9, H10 PB15, H11 PD12, H12 PD14, H13 PG2, J1 PH1, J2 PC0, J3 PC1, J4 PH2, J5 PA5, J6 PF11, J7 PF15, J8 PE8, J9 PE14, J10 PB14, J11 PD8, J12 VSS, J13 VDD, K1 PC2, K2 PC3, K3 PA0, K4 PA3, K5 PA7, K6 PF12, K7 PG1, K8 PE13, K9 PB10, K10 PH10, K11 PB12, K12 PB13, K13 PD10, L1 VSSA, L2 VREF-, L3 PA2, L4 PH5, L5 PC4, L6 PF14, L7 PE7, L8 PE10, L9 PE15, L10 PB11, L11 PH7, L12 PH12, L13 PH11, M1 VDDA, M2 VREF+, M3 VSS, M4 PA4, M5 PC5, M6 PG0, M7 VSS, M8 PE11, M9 PE12, M10 VSSSMPS, M11 VSS, M12 PH8, M13 PH9, N1 PH4, N2 PH3, N3 VDD, N4 PA6, N5 PB0, N6 PB2, N7 VDD, N8 PE9, N9 VLXSMPS, N10 VDDSMPS, N11 VCAP, N12 VDD, N13 PH6

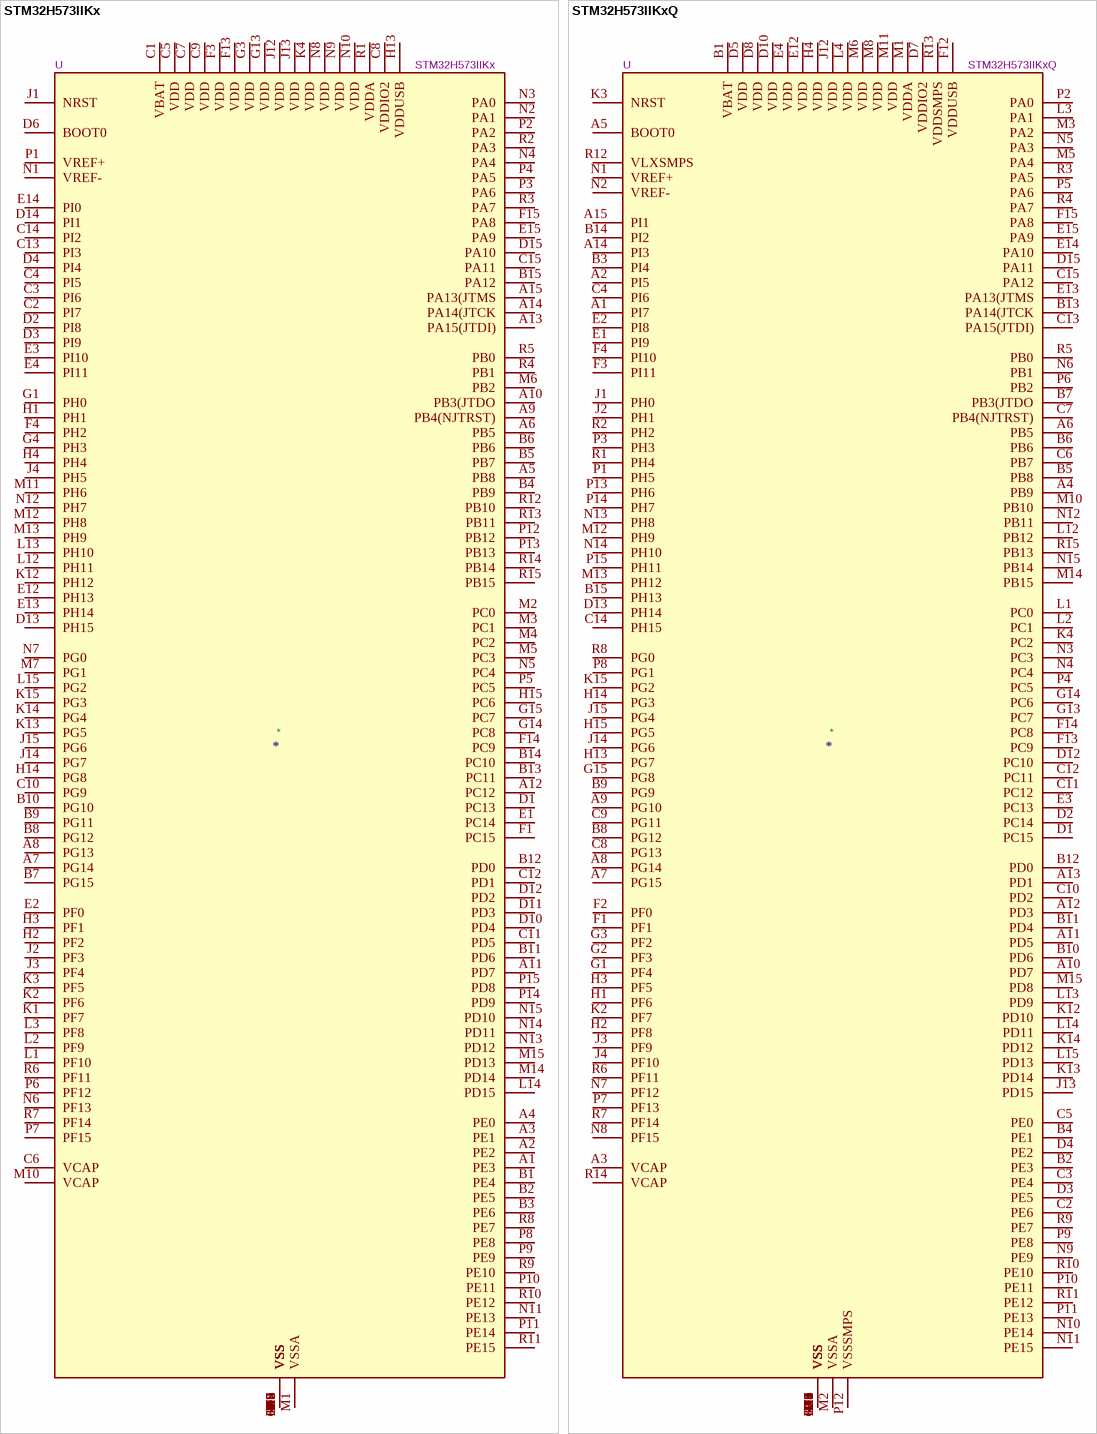
[diagram p18: symbols STM32H573IIKx to STM32H573IIKxQ]

## STM32H573IIKx
designator *  value STM32H573IIKx  Reference: U
STMicroelectronics Arm Cortex-M33 MCU, 2048KB flash, 640KB RAM, 250 MHz, 1.62-3.6V, 140 GPIO, UFBGA176; ki_keywords: Arm Cortex-M33 STM32H5 STM32H563/H573; ki_fp_filters: UFBGA*10x10mm*Layout15x15*P0.65mm*; Footprint: Package_BGA:UFBGA-201_10x10mm_Layout15x15_P0.65mm; Datasheet: https://www.st.com/resource/en/datasheet/stm32h573ii.pdf; Description_: STMicroelectronics Arm Cortex-M33 MCU, 2048KB flash, 640KB RAM, 250 MHz, 1.62-3.6V, 140 GPIO, UFBGA176
pins: A1 PE3, A2 PE2, A3 PE1, A4 PE0, A5 PB8, A6 PB5, A7 PG14, A8 PG13, A9 PB4(NJTRST), A10 PB3(JTDO, A11 PD7, A12 PC12, A13 PA15(JTDI), A14 PA14(JTCK, A15 PA13(JTMS, B1 PE4, B2 PE5, B3 PE6, B4 PB9, B5 PB7, B6 PB6, B7 PG15, B8 PG12, B9 PG11, B10 PG10, B11 PD6, B12 PD0, B13 PC11, B14 PC10, B15 PA12, C1 VBAT, C2 PI7, C3 PI6, C4 PI5, C5 VDD, C6 VCAP, C7 VDD, C8 VDDIO2, C9 VDD, C10 PG9, C11 PD5, C12 PD1, C13 PI3, C14 PI2, C15 PA11, D1 PC13, D2 PI8, D3 PI9, D4 PI4, D5 VSS, D6 BOOT0, D7 VSS, D8 VSS, D9 VSS, D10 PD4, D11 PD3, D12 PD2, D13 PH15, D14 PI1, D15 PA10, E1 PC14, E2 PF0, E3 PI10, E4 PI11, E12 PH13, E13 PH14, E14 PI0, E15 PA9, F1 PC15, F2 VSS, F3 VDD, F4 PH2, F6 VSS, F7 VSS, F8 VSS, F9 VSS, F10 VSS, F12 VSS, F13 VDD, F14 PC9, F15 PA8, G1 PH0, G2 VSS, G3 VDD, G4 PH3, G6 VSS, G7 VSS, G8 VSS, G9 VSS, G10 VSS, G12 VSS, G13 VDD, G14 PC8, G15 PC7, H1 PH1, H2 PF2, H3 PF1, H4 PH4, H6 VSS, H7 VSS, H8 VSS, H9 VSS, H10 VSS, H12 VSS, H13 VDDUSB, H14 PG8, H15 PC6, J1 NRST, J2 PF3, J3 PF4, J4 PH5, J6 VSS, J7 VSS, J8 VSS, J9 VSS, J10 VSS, J12 VDD, J13 VDD, J14 PG7, J15 PG6, K1 PF7, K2 PF6, K3 PF5, K4 VDD, K6 VSS, K7 VSS, K8 VSS, K9 VSS, K10 VSS, K12 PH12, K13 PG5, K14 PG4, K15 PG3, L1 PF10, L2 PF9, L3 PF8, L4 VSS, L12 PH11, L13 PH10, L14 PD15, L15 PG2, M1 VSSA, M2 PC0, M3 PC1, M4 PC2, M5 PC3, M6 PB2, M7 PG1, M8 VSS, M9 VSS, M10 VCAP, M11 PH6, M12 PH8, M13 PH9, M14 PD14, M15 PD13, N1 VREF-, N2 PA1, N3 PA0, N4 PA4, N5 PC4, N6 PF13, N7 PG0, N8 VDD, N9 VDD, N10 VDD, N11 PE13, N12 PH7, N13 PD12, N14 PD11, N15 PD10, P1 VREF+, P2 PA2, P3 PA6, P4 PA5, P5 PC5, P6 PF12, P7 PF15, P8 PE8, P9 PE9, P10 PE11, P11 PE14, P12 PB12, P13 PB13, P14 PD9, P15 PD8, R1 VDDA, R2 PA3, R3 PA7, R4 PB1, R5 PB0, R6 PF11, R7 PF14, R8 PE7, R9 PE10, R10 PE12, R11 PE15, R12 PB10, R13 PB11, R14 PB14, R15 PB15

## STM32H573IIKxQ
designator *  value STM32H573IIKxQ  Reference: U
STMicroelectronics Arm Cortex-M33 MCU, 2048KB flash, 640KB RAM, 250 MHz, 1.62-3.6V, 139 GPIO, UFBGA176; ki_keywords: Arm Cortex-M33 STM32H5 STM32H563/H573; ki_fp_filters: UFBGA*10x10mm*Layout15x15*P0.65mm*; Footprint: Package_BGA:UFBGA-201_10x10mm_Layout15x15_P0.65mm; Datasheet: https://www.st.com/resource/en/datasheet/stm32h573ii.pdf; Description_: STMicroelectronics Arm Cortex-M33 MCU, 2048KB flash, 640KB RAM, 250 MHz, 1.62-3.6V, 139 GPIO, UFBGA176
pins: A1 PI7, A2 PI5, A3 VCAP, A4 PB9, A5 BOOT0, A6 PB5, A7 PG15, A8 PG14, A9 PG10, A10 PD7, A11 PD5, A12 PD3, A13 PD1, A14 PI3, A15 PI1, B1 VBAT, B2 PE3, B3 PI4, B4 PE1, B5 PB8, B6 PB6, B7 PB3(JTDO, B8 PG12, B9 PG9, B10 PD6, B11 PD4, B12 PD0, B13 PA14(JTCK, B14 PI2, B15 PH13, C1 VSS, C2 PE6, C3 PE4, C4 PI6, C5 PE0, C6 PB7, C7 PB4(NJTRST), C8 PG13, C9 PG11, C10 PD2, C11 PC12, C12 PC11, C13 PA15(JTDI), C14 PH15, C15 PA12, D1 PC15, D2 PC14, D3 PE5, D4 PE2, D5 VDD, D6 VSS, D7 VDDIO2, D8 VDD, D9 VSS, D10 VDD, D11 VSS, D12 PC10, D13 PH14, D14 VSS, D15 PA11, E1 PI9, E2 PI8, E3 PC13, E4 VDD, E12 VDD, E13 PA13(JTMS, E14 PA10, E15 PA9, F1 PF1, F2 PF0, F3 PI11, F4 PI10, F6 VSS, F7 VSS, F8 VSS, F9 VSS, F10 VSS, F12 VDDUSB, F13 PC9, F14 PC8, F15 PA8, G1 PF4, G2 PF3, G3 PF2, G4 VSS, G6 VSS, G7 VSS, G8 VSS, G9 VSS, G10 VSS, G12 VSS, G13 PC7, G14 PC6, G15 PG8, H1 PF6, H2 PF8, H3 PF5, H4 VDD, H6 VSS, H7 VSS, H8 VSS, H9 VSS, H10 VSS, H12 VSS, H13 PG7, H14 PG3, H15 PG5, J1 PH0, J2 PH1, J3 PF9, J4 PF10, J6 VSS, J7 VSS, J8 VSS, J9 VSS, J10 VSS, J12 VDD, J13 PD15, J14 PG6, J15 PG4, K1 VSS, K2 PF7, K3 NRST, K4 PC2, K6 VSS, K7 VSS, K8 VSS, K9 VSS, K10 VSS, K12 PD10, K13 PD14, K14 PD12, K15 PG2, L1 PC0, L2 PC1, L3 PA1, L4 VDD, L12 PB12, L13 PD9, L14 PD11, L15 PD13, M1 VDDA, M2 VSSA, M3 PA2, M4 VSS, M5 PA4, M6 VDD, M7 VSS, M8 VDD, M9 VSS, M10 PB10, M11 VDD, M12 PH9, M13 PH12, M14 PB15, M15 PD8, N1 VREF+, N2 VREF-, N3 PC3, N4 PC4, N5 PA3, N6 PB1, N7 PF12, N8 PF15, N9 PE9, N10 PE14, N11 PE15, N12 PB11, N13 PH8, N14 PH10, N15 PB14, P1 PH5, P2 PA0, P3 PH3, P4 PC5, P5 PA6, P6 PB2, P7 PF13, P8 PG1, P9 PE8, P10 PE11, P11 PE13, P12 VSSSMPS, P13 PH6, P14 PH7, P15 PH11, R1 PH4, R2 PH2, R3 PA5, R4 PA7, R5 PB0, R6 PF11, R7 PF14, R8 PG0, R9 PE7, R10 PE10, R11 PE12, R12 VLXSMPS, R13 VDDSMPS, R14 VCAP, R15 PB13

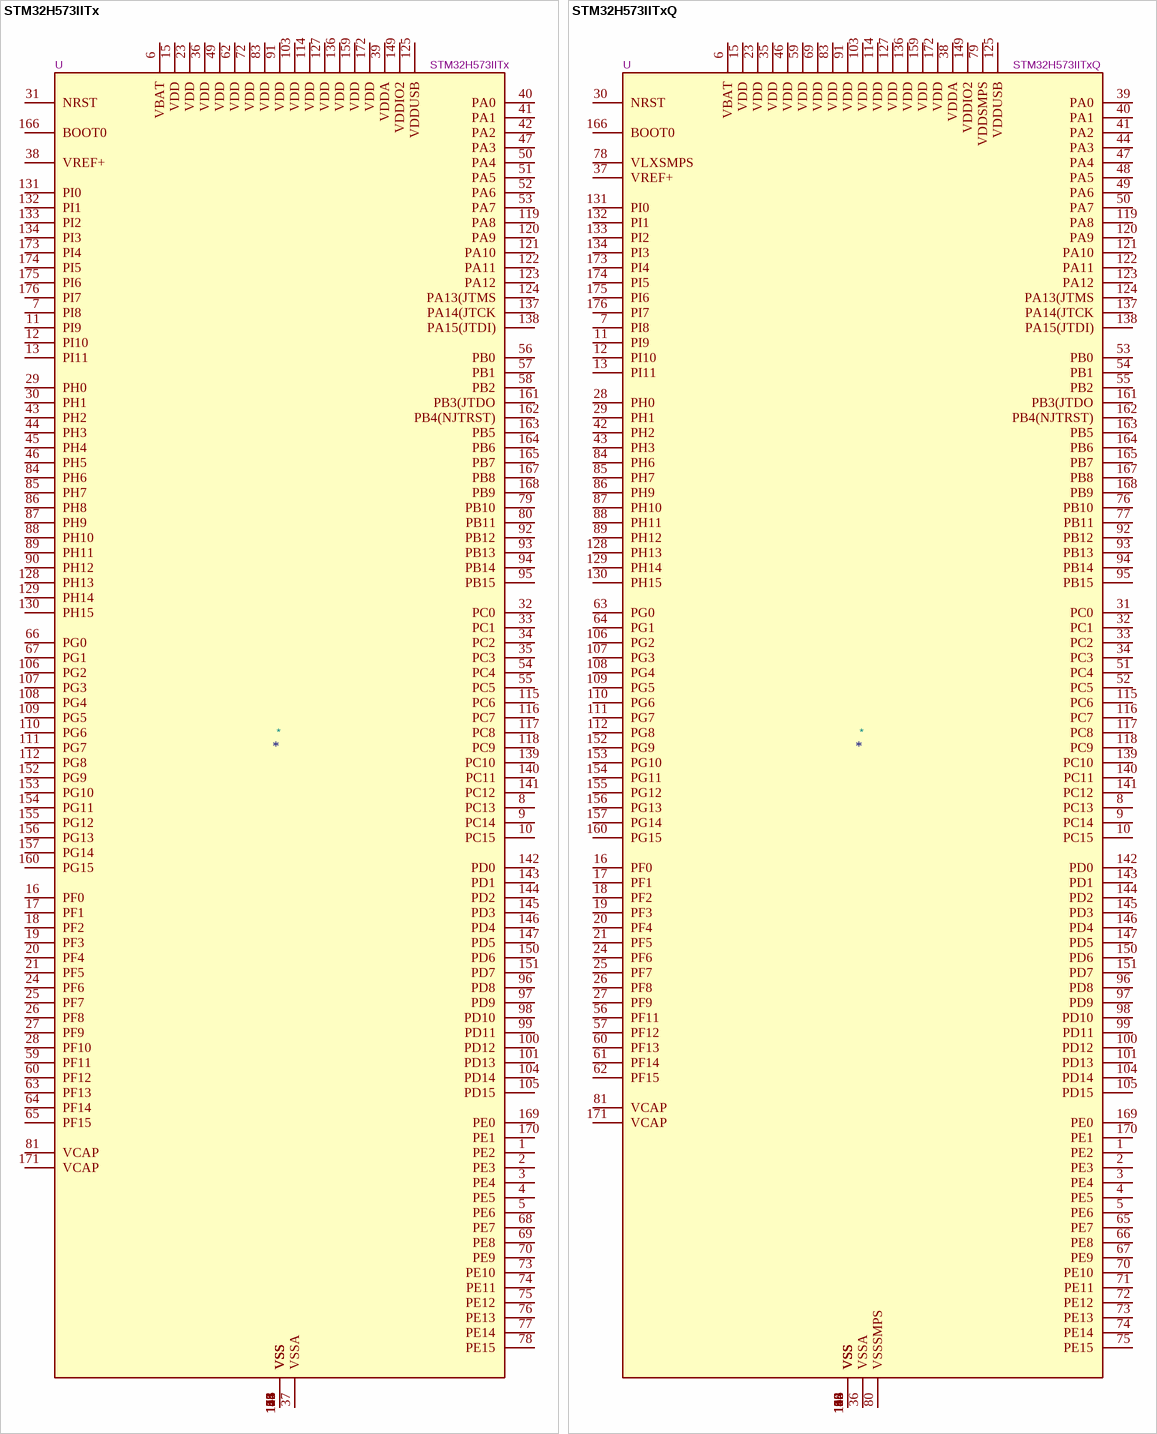
[diagram p19: symbols STM32H573IITx to STM32H573IITxQ]